# Altium schematic symbol library MH_DA_THU_VIEN_16122016.SchLib: 853 symbols (part 2 of 5)
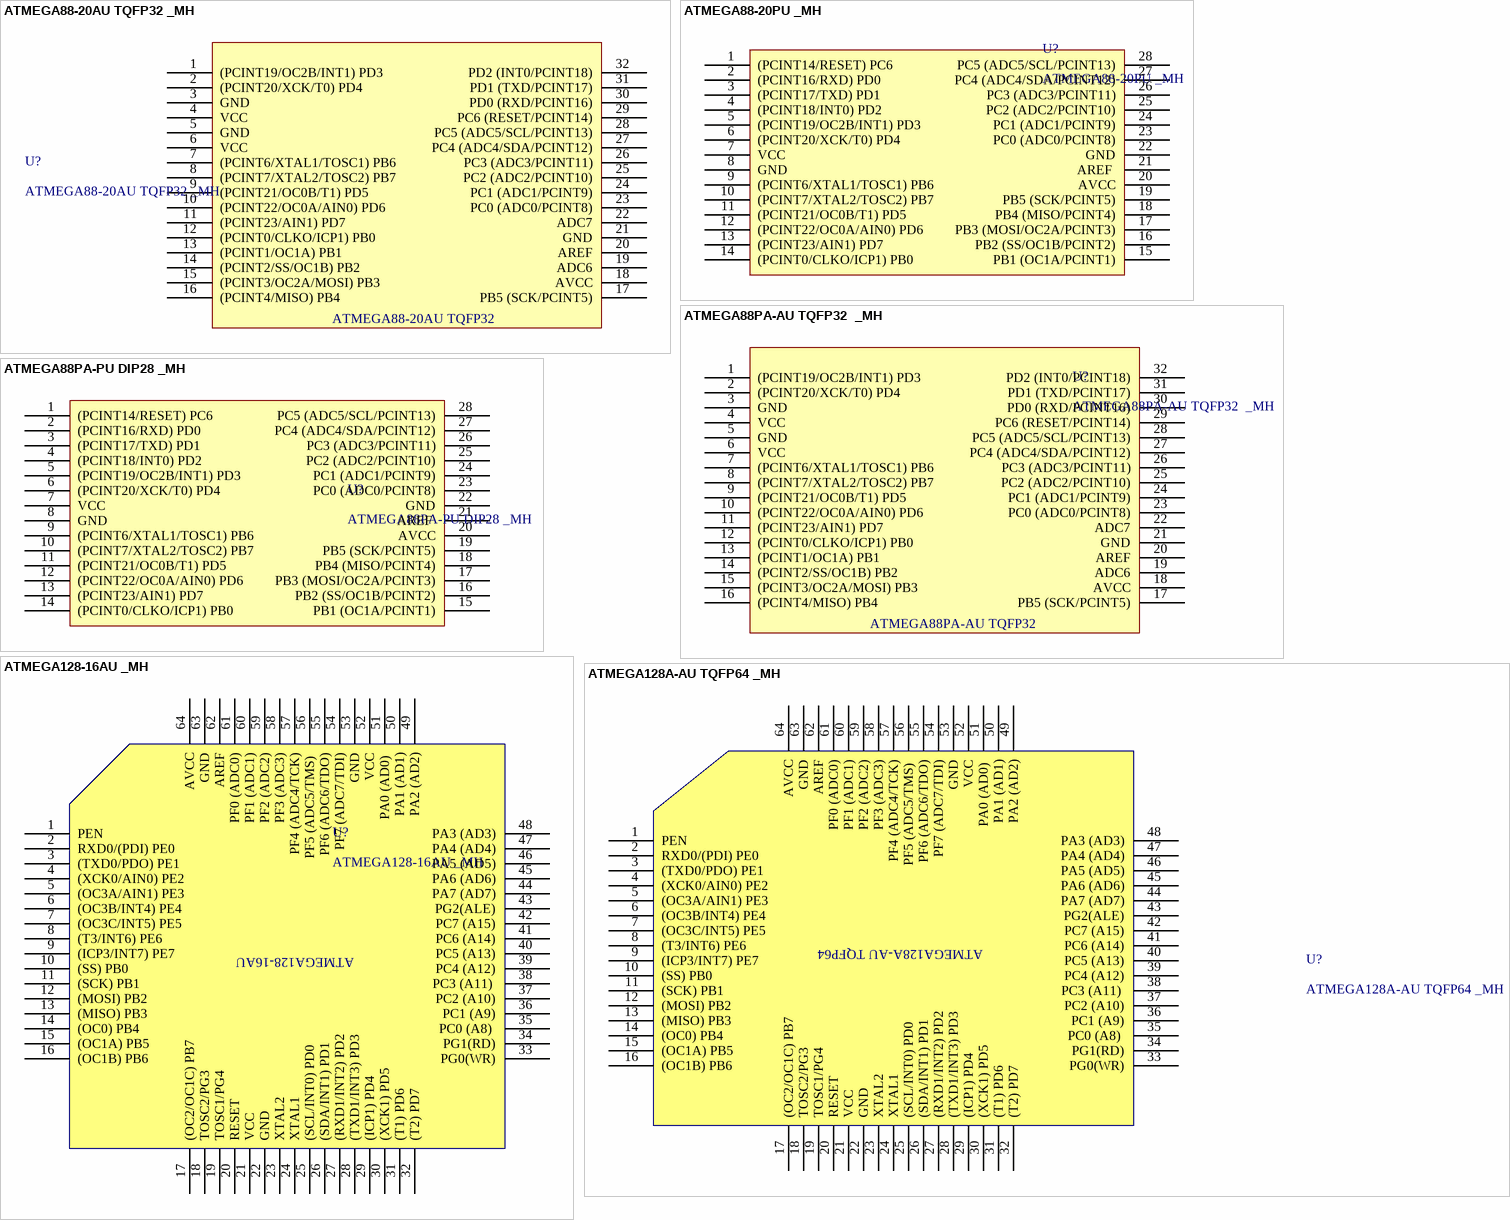
[diagram p41: symbols ATMEGA88-20AU TQFP32 _MH to ATMEGA128A-AU TQFP64 _MH]

## ATMEGA128-16AU _MH
designator U?
footprint ATmega128 (Atmega128)
pins: 1 PEN, 2 RXD0/(PDI) PE0, 3 (TXD0/PDO) PE1, 4 (XCK0/AIN0) PE2, 5 (OC3A/AIN1) PE3, 6 (OC3B/INT4) PE4, 7 (OC3C/INT5) PE5, 8 (T3/INT6) PE6, 9 (ICP3/INT7) PE7, 10 (SS) PB0, 11 (SCK) PB1, 12 (MOSI) PB2, 13 (MISO) PB3, 14 (OC0) PB4, 15 (OC1A) PB5, 16 (OC1B) PB6, 17 (OC2/OC1C) PB7, 18 TOSC2/PG3, 19 TOSC1/PG4, 20 RESET, 21 VCC, 22 GND, 23 XTAL2, 24 XTAL1, 25 (SCL/INT0) PD0, 26 (SDA/INT1) PD1, 27 (RXD1/INT2) PD2, 28 (TXD1/INT3) PD3, 29 (ICP1) PD4, 30 (XCK1) PD5, 31 (T1) PD6, 32 (T2) PD7, 33 PG0(WR), 34 PG1(RD), 35 PC0 (A8) , 36 PC1 (A9), 37 PC2 (A10), 38 PC3 (A11) , 39 PC4 (A12), 40 PC5 (A13), 41 PC6 (A14), 42 PC7 (A15), 43 PG2(ALE), 44 PA7 (AD7), 45 PA6 (AD6), 46 PA5 (AD5), 47 PA4 (AD4), 48 PA3 (AD3), 49 PA2 (AD2), 50 PA1 (AD1), 51 PA0 (AD0) , 52 VCC, 53 GND, 54 PF7 (ADC7/TDI), 55 PF6 (ADC6/TDO), 56 PF5 (ADC5/TMS) , 57 PF4 (ADC4/TCK), 58 PF3 (ADC3), 59 PF2 (ADC2), 60 PF1 (ADC1), 61 PF0 (ADC0), 62 AREF, 63 GND, 64 AVCC
text: ATMEGA128-16AU

## ATMEGA128A-AU TQFP64 _MH
designator U?
footprint TQFP64
pins: 1 PEN, 2 RXD0/(PDI) PE0, 3 (TXD0/PDO) PE1, 4 (XCK0/AIN0) PE2, 5 (OC3A/AIN1) PE3, 6 (OC3B/INT4) PE4, 7 (OC3C/INT5) PE5, 8 (T3/INT6) PE6, 9 (ICP3/INT7) PE7, 10 (SS) PB0, 11 (SCK) PB1, 12 (MOSI) PB2, 13 (MISO) PB3, 14 (OC0) PB4, 15 (OC1A) PB5, 16 (OC1B) PB6, 17 (OC2/OC1C) PB7, 18 TOSC2/PG3, 19 TOSC1/PG4, 20 RESET, 21 VCC, 22 GND, 23 XTAL2, 24 XTAL1, 25 (SCL/INT0) PD0, 26 (SDA/INT1) PD1, 27 (RXD1/INT2) PD2, 28 (TXD1/INT3) PD3, 29 (ICP1) PD4, 30 (XCK1) PD5, 31 (T1) PD6, 32 (T2) PD7, 33 PG0(WR), 34 PG1(RD), 35 PC0 (A8) , 36 PC1 (A9), 37 PC2 (A10), 38 PC3 (A11) , 39 PC4 (A12), 40 PC5 (A13), 41 PC6 (A14), 42 PC7 (A15), 43 PG2(ALE), 44 PA7 (AD7), 45 PA6 (AD6), 46 PA5 (AD5), 47 PA4 (AD4), 48 PA3 (AD3), 49 PA2 (AD2), 50 PA1 (AD1), 51 PA0 (AD0) , 52 VCC, 53 GND, 54 PF7 (ADC7/TDI), 55 PF6 (ADC6/TDO), 56 PF5 (ADC5/TMS) , 57 PF4 (ADC4/TCK), 58 PF3 (ADC3), 59 PF2 (ADC2), 60 PF1 (ADC1), 61 PF0 (ADC0), 62 AREF, 63 GND, 64 AVCC
text: ATMEGA128A-AU TQFP64

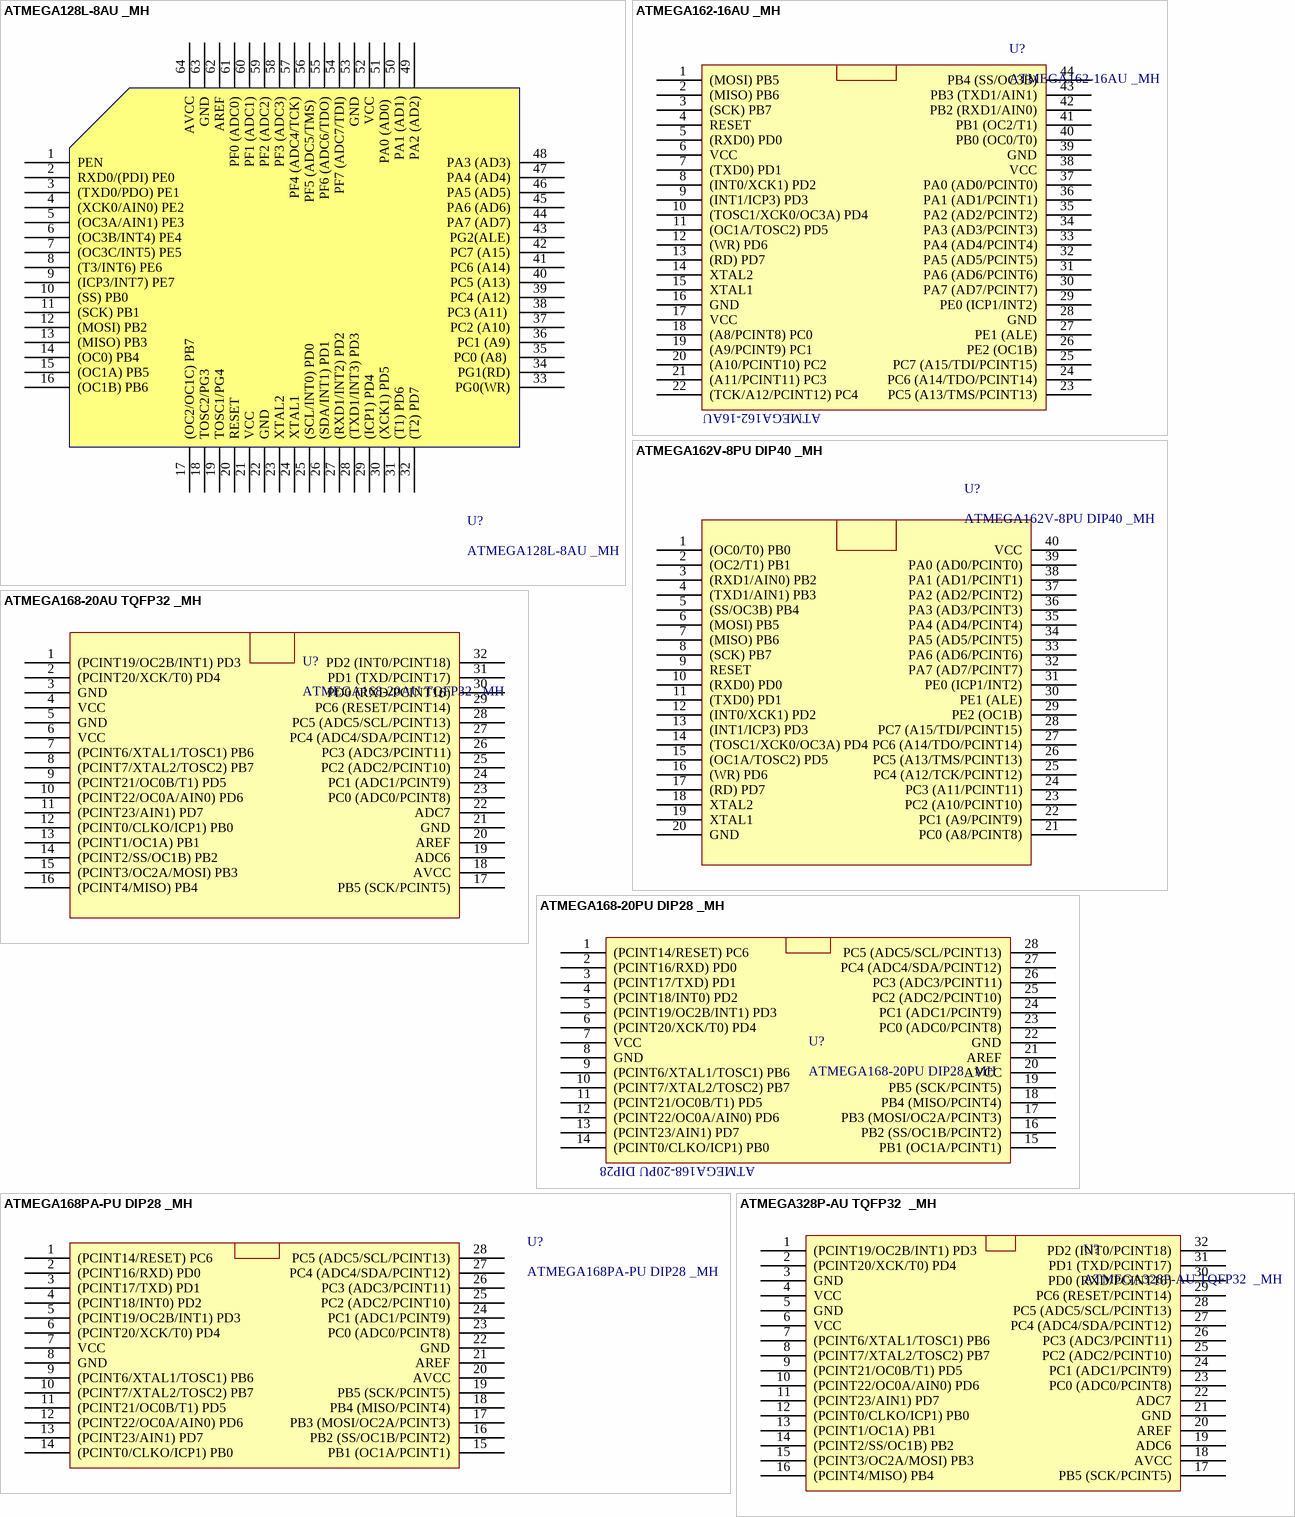
[diagram p8: symbols ATMEGA128L-8AU _MH to ATMEGA328P-AU TQFP32  _MH]

## ATMEGA128L-8AU _MH
designator U?
footprint Atmega 128L (Atmega 128L, 64 pin SMT)
pins: 1 PEN, 2 RXD0/(PDI) PE0, 3 (TXD0/PDO) PE1, 4 (XCK0/AIN0) PE2, 5 (OC3A/AIN1) PE3, 6 (OC3B/INT4) PE4, 7 (OC3C/INT5) PE5, 8 (T3/INT6) PE6, 9 (ICP3/INT7) PE7, 10 (SS) PB0, 11 (SCK) PB1, 12 (MOSI) PB2, 13 (MISO) PB3, 14 (OC0) PB4, 15 (OC1A) PB5, 16 (OC1B) PB6, 17 (OC2/OC1C) PB7, 18 TOSC2/PG3, 19 TOSC1/PG4, 20 RESET, 21 VCC, 22 GND, 23 XTAL2, 24 XTAL1, 25 (SCL/INT0) PD0, 26 (SDA/INT1) PD1, 27 (RXD1/INT2) PD2, 28 (TXD1/INT3) PD3, 29 (ICP1) PD4, 30 (XCK1) PD5, 31 (T1) PD6, 32 (T2) PD7, 33 PG0(WR), 34 PG1(RD), 35 PC0 (A8) , 36 PC1 (A9), 37 PC2 (A10), 38 PC3 (A11) , 39 PC4 (A12), 40 PC5 (A13), 41 PC6 (A14), 42 PC7 (A15), 43 PG2(ALE), 44 PA7 (AD7), 45 PA6 (AD6), 46 PA5 (AD5), 47 PA4 (AD4), 48 PA3 (AD3), 49 PA2 (AD2), 50 PA1 (AD1), 51 PA0 (AD0) , 52 VCC, 53 GND, 54 PF7 (ADC7/TDI), 55 PF6 (ADC6/TDO), 56 PF5 (ADC5/TMS) , 57 PF4 (ADC4/TCK), 58 PF3 (ADC3), 59 PF2 (ADC2), 60 PF1 (ADC1), 61 PF0 (ADC0), 62 AREF, 63 GND, 64 AVCC

## ATMEGA162-16AU _MH
designator U?
footprint TQFP44-10x10-P0.8 (QFP, 44-Leads, Body 10x10mm, Pitch 0.8mm, IPC High Density)
pins: 1 (MOSI) PB5, 2 (MISO) PB6, 3 (SCK) PB7, 4 RESET, 5 (RXD0) PD0, 6 VCC, 7 (TXD0) PD1, 8 (INT0/XCK1) PD2, 9 (INT1/ICP3) PD3, 10 (TOSC1/XCK0/OC3A) PD4, 11 (OC1A/TOSC2) PD5, 12 (WR) PD6, 13 (RD) PD7, 14 XTAL2, 15 XTAL1, 16 GND, 17 VCC, 18 (A8/PCINT8) PC0, 19 (A9/PCINT9) PC1, 20 (A10/PCINT10) PC2, 21 (A11/PCINT11) PC3, 22 (TCK/A12/PCINT12) PC4, 23 PC5 (A13/TMS/PCINT13), 24 PC6 (A14/TDO/PCINT14), 25 PC7 (A15/TDI/PCINT15), 26 PE2 (OC1B), 27 PE1 (ALE), 28 GND, 29 PE0 (ICP1/INT2), 30 PA7 (AD7/PCINT7), 31 PA6 (AD6/PCINT6), 32 PA5 (AD5/PCINT5), 33 PA4 (AD4/PCINT4), 34 PA3 (AD3/PCINT3), 35 PA2 (AD2/PCINT2), 36 PA1 (AD1/PCINT1), 37 PA0 (AD0/PCINT0), 38 VCC, 39 GND, 40 PB0 (OC0/T0), 41 PB1 (OC2/T1), 42 PB2 (RXD1/AIN0), 43 PB3 (TXD1/AIN1), 44 PB4 (SS/OC3B)
text: ATMEGA162-16AU

## ATMEGA162V-8PU DIP40 _MH
designator U?
footprint DIP40/W0.3 (40 PIN, W 300mil, Pin to pin 100mil)
pins: 1 (OC0/T0) PB0, 2 (OC2/T1) PB1, 3 (RXD1/AIN0) PB2, 4 (TXD1/AIN1) PB3, 5 (SS/OC3B) PB4, 6 (MOSI) PB5, 7 (MISO) PB6, 8 (SCK) PB7, 9 RESET, 10 (RXD0) PD0, 11 (TXD0) PD1, 12 (INT0/XCK1) PD2, 13 (INT1/ICP3) PD3, 14 (TOSC1/XCK0/OC3A) PD4, 15 (OC1A/TOSC2) PD5, 16 (WR) PD6, 17 (RD) PD7, 18 XTAL2, 19 XTAL1, 20 GND, 21 PC0 (A8/PCINT8), 22 PC1 (A9/PCINT9), 23 PC2 (A10/PCINT10), 24 PC3 (A11/PCINT11), 25 PC4 (A12/TCK/PCINT12), 26 PC5 (A13/TMS/PCINT13), 27 PC6 (A14/TDO/PCINT14), 28 PC7 (A15/TDI/PCINT15), 29 PE2 (OC1B), 30 PE1 (ALE), 31 PE0 (ICP1/INT2), 32 PA7 (AD7/PCINT7), 33 PA6 (AD6/PCINT6), 34 PA5 (AD5/PCINT5), 35 PA4 (AD4/PCINT4), 36 PA3 (AD3/PCINT3), 37 PA2 (AD2/PCINT2), 38 PA1 (AD1/PCINT1), 39 PA0 (AD0/PCINT0), 40 VCC

## ATMEGA168-20AU TQFP32 _MH
designator U?
footprint TQFP32
pins: 1 (PCINT19/OC2B/INT1) PD3, 2 (PCINT20/XCK/T0) PD4, 3 GND, 4 VCC, 5 GND, 6 VCC, 7 (PCINT6/XTAL1/TOSC1) PB6, 8 (PCINT7/XTAL2/TOSC2) PB7, 9 (PCINT21/OC0B/T1) PD5, 10 (PCINT22/OC0A/AIN0) PD6, 11 (PCINT23/AIN1) PD7, 12 (PCINT0/CLKO/ICP1) PB0, 13 (PCINT1/OC1A) PB1, 14 (PCINT2/SS/OC1B) PB2, 15 (PCINT3/OC2A/MOSI) PB3, 16 (PCINT4/MISO) PB4, 17 PB5 (SCK/PCINT5), 18 AVCC, 19 ADC6, 20 AREF, 21 GND, 22 ADC7, 23 PC0 (ADC0/PCINT8), 24 PC1 (ADC1/PCINT9), 25 PC2 (ADC2/PCINT10), 26 PC3 (ADC3/PCINT11), 27 PC4 (ADC4/SDA/PCINT12), 28 PC5 (ADC5/SCL/PCINT13), 29 PC6 (RESET/PCINT14), 30 PD0 (RXD/PCINT16), 31 PD1 (TXD/PCINT17), 32 PD2 (INT0/PCINT18)

## ATMEGA168-20PU DIP28 _MH
designator U?
footprint DIP28 (28 PIN, W 300mil, Pin to pin 100mil)
pins: 1 (PCINT14/RESET) PC6, 2 (PCINT16/RXD) PD0, 3 (PCINT17/TXD) PD1, 4 (PCINT18/INT0) PD2, 5 (PCINT19/OC2B/INT1) PD3, 6 (PCINT20/XCK/T0) PD4, 7 VCC, 8 GND, 9 (PCINT6/XTAL1/TOSC1) PB6, 10 (PCINT7/XTAL2/TOSC2) PB7, 11 (PCINT21/OC0B/T1) PD5, 12 (PCINT22/OC0A/AIN0) PD6, 13 (PCINT23/AIN1) PD7, 14 (PCINT0/CLKO/ICP1) PB0, 15 PB1 (OC1A/PCINT1), 16 PB2 (SS/OC1B/PCINT2), 17 PB3 (MOSI/OC2A/PCINT3), 18 PB4 (MISO/PCINT4), 19 PB5 (SCK/PCINT5), 20 AVCC, 21 AREF, 22 GND, 23 PC0 (ADC0/PCINT8), 24 PC1 (ADC1/PCINT9), 25 PC2 (ADC2/PCINT10), 26 PC3 (ADC3/PCINT11), 27 PC4 (ADC4/SDA/PCINT12), 28 PC5 (ADC5/SCL/PCINT13)
text: ATMEGA168-20PU DIP28

## ATMEGA168PA-PU DIP28 _MH
designator U?
footprint DIP28 (28 PIN, W 300mil, Pin to pin 100mil)
pins: 1 (PCINT14/RESET) PC6, 2 (PCINT16/RXD) PD0, 3 (PCINT17/TXD) PD1, 4 (PCINT18/INT0) PD2, 5 (PCINT19/OC2B/INT1) PD3, 6 (PCINT20/XCK/T0) PD4, 7 VCC, 8 GND, 9 (PCINT6/XTAL1/TOSC1) PB6, 10 (PCINT7/XTAL2/TOSC2) PB7, 11 (PCINT21/OC0B/T1) PD5, 12 (PCINT22/OC0A/AIN0) PD6, 13 (PCINT23/AIN1) PD7, 14 (PCINT0/CLKO/ICP1) PB0, 15 PB1 (OC1A/PCINT1), 16 PB2 (SS/OC1B/PCINT2), 17 PB3 (MOSI/OC2A/PCINT3), 18 PB4 (MISO/PCINT4), 19 PB5 (SCK/PCINT5), 20 AVCC, 21 AREF, 22 GND, 23 PC0 (ADC0/PCINT8), 24 PC1 (ADC1/PCINT9), 25 PC2 (ADC2/PCINT10), 26 PC3 (ADC3/PCINT11), 27 PC4 (ADC4/SDA/PCINT12), 28 PC5 (ADC5/SCL/PCINT13)

## ATMEGA328P-AU TQFP32  _MH
designator U?
footprint TQFP32
pins: 1 (PCINT19/OC2B/INT1) PD3, 2 (PCINT20/XCK/T0) PD4, 3 GND, 4 VCC, 5 GND, 6 VCC, 7 (PCINT6/XTAL1/TOSC1) PB6, 8 (PCINT7/XTAL2/TOSC2) PB7, 9 (PCINT21/OC0B/T1) PD5, 10 (PCINT22/OC0A/AIN0) PD6, 11 (PCINT23/AIN1) PD7, 12 (PCINT0/CLKO/ICP1) PB0, 13 (PCINT1/OC1A) PB1, 14 (PCINT2/SS/OC1B) PB2, 15 (PCINT3/OC2A/MOSI) PB3, 16 (PCINT4/MISO) PB4, 17 PB5 (SCK/PCINT5), 18 AVCC, 19 ADC6, 20 AREF, 21 GND, 22 ADC7, 23 PC0 (ADC0/PCINT8), 24 PC1 (ADC1/PCINT9), 25 PC2 (ADC2/PCINT10), 26 PC3 (ADC3/PCINT11), 27 PC4 (ADC4/SDA/PCINT12), 28 PC5 (ADC5/SCL/PCINT13), 29 PC6 (RESET/PCINT14), 30 PD0 (RXD/PCINT16), 31 PD1 (TXD/PCINT17), 32 PD2 (INT0/PCINT18)

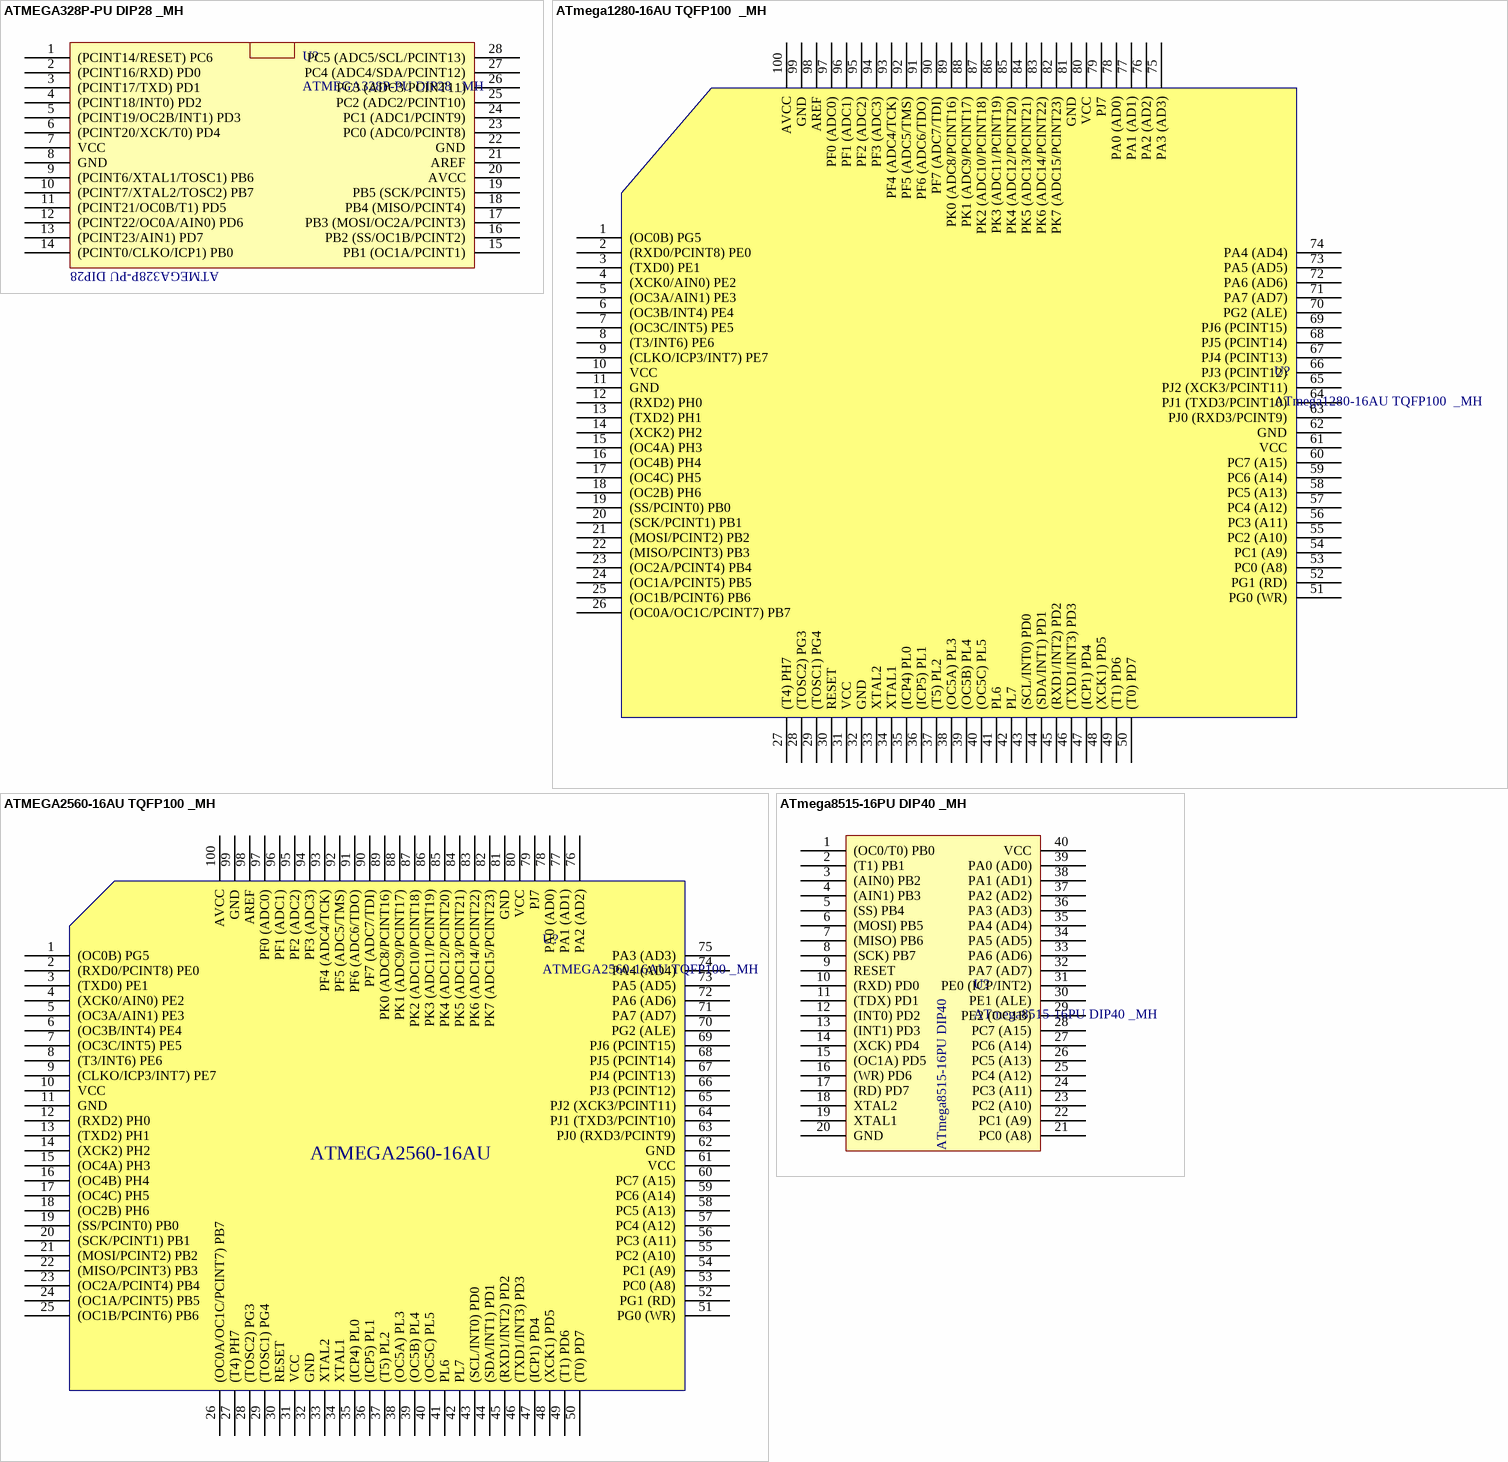
[diagram p9: symbols ATMEGA328P-PU DIP28 _MH to ATmega8515-16PU DIP40 _MH]

## ATMEGA328P-PU DIP28 _MH
designator U?
footprint DIP28 (28 PIN, W 300mil, Pin to pin 100mil)
pins: 1 (PCINT14/RESET) PC6, 2 (PCINT16/RXD) PD0, 3 (PCINT17/TXD) PD1, 4 (PCINT18/INT0) PD2, 5 (PCINT19/OC2B/INT1) PD3, 6 (PCINT20/XCK/T0) PD4, 7 VCC, 8 GND, 9 (PCINT6/XTAL1/TOSC1) PB6, 10 (PCINT7/XTAL2/TOSC2) PB7, 11 (PCINT21/OC0B/T1) PD5, 12 (PCINT22/OC0A/AIN0) PD6, 13 (PCINT23/AIN1) PD7, 14 (PCINT0/CLKO/ICP1) PB0, 15 PB1 (OC1A/PCINT1), 16 PB2 (SS/OC1B/PCINT2), 17 PB3 (MOSI/OC2A/PCINT3), 18 PB4 (MISO/PCINT4), 19 PB5 (SCK/PCINT5), 20 AVCC, 21 AREF, 22 GND, 23 PC0 (ADC0/PCINT8), 24 PC1 (ADC1/PCINT9), 25 PC2 (ADC2/PCINT10), 26 PC3 (ADC3/PCINT11), 27 PC4 (ADC4/SDA/PCINT12), 28 PC5 (ADC5/SCL/PCINT13)
text: ATMEGA328P-PU DIP28

## ATmega1280-16AU TQFP100  _MH
designator U?
footprint TQFP-100-14x14 (Thin QFP, 100-Leads, Body 14x14mm, Pitch 0.5mm, IPC Low Density)
pins: 1 (OC0B) PG5, 2 (RXD0/PCINT8) PE0, 3 (TXD0) PE1, 4 (XCK0/AIN0) PE2, 5 (OC3A/AIN1) PE3, 6 (OC3B/INT4) PE4, 7 (OC3C/INT5) PE5, 8 (T3/INT6) PE6, 9 (CLKO/ICP3/INT7) PE7, 10 VCC, 11 GND, 12 (RXD2) PH0, 13 (TXD2) PH1, 14 (XCK2) PH2, 15 (OC4A) PH3, 16 (OC4B) PH4, 17 (OC4C) PH5, 18 (OC2B) PH6, 19 (SS/PCINT0) PB0, 20 (SCK/PCINT1) PB1, 21 (MOSI/PCINT2) PB2, 22 (MISO/PCINT3) PB3, 23 (OC2A/PCINT4) PB4, 24 (OC1A/PCINT5) PB5, 25 (OC1B/PCINT6) PB6, 26 (OC0A/OC1C/PCINT7) PB7, 27 (T4) PH7, 28 (TOSC2) PG3, 29 (TOSC1) PG4, 30 RESET, 31 VCC, 32 GND, 33 XTAL2, 34 XTAL1, 35 (ICP4) PL0, 36 (ICP5) PL1, 37 (T5) PL2, 38 (OC5A) PL3, 39 (OC5B) PL4, 40 (OC5C) PL5, 41 PL6, 42 PL7, 43 (SCL/INT0) PD0, 44 (SDA/INT1) PD1, 45 (RXD1/INT2) PD2, 46 (TXD1/INT3) PD3, 47 (ICP1) PD4, 48 (XCK1) PD5, 49 (T1) PD6, 50 (T0) PD7, 51 PG0 (WR), 52 PG1 (RD), 53 PC0 (A8), 54 PC1 (A9), 55 PC2 (A10), 56 PC3 (A11), 57 PC4 (A12), 58 PC5 (A13), 59 PC6 (A14), 60 PC7 (A15), 61 VCC, 62 GND, 63 PJ0 (RXD3/PCINT9), 64 PJ1 (TXD3/PCINT10), 65 PJ2 (XCK3/PCINT11), 66 PJ3 (PCINT12), 67 PJ4 (PCINT13), 68 PJ5 (PCINT14), 69 PJ6 (PCINT15), 70 PG2 (ALE), 71 PA7 (AD7), 72 PA6 (AD6), 73 PA5 (AD5), 74 PA4 (AD4), 75 PA3 (AD3), 76 PA2 (AD2), 77 PA1 (AD1), 78 PA0 (AD0), 79 PJ7, 80 VCC, 81 GND, 82 PK7 (ADC15/PCINT23), 83 PK6 (ADC14/PCINT22), 84 PK5 (ADC13/PCINT21), 85 PK4 (ADC12/PCINT20), 86 PK3 (ADC11/PCINT19), 87 PK2 (ADC10/PCINT18), 88 PK1 (ADC9/PCINT17), 89 PK0 (ADC8/PCINT16), 90 PF7 (ADC7/TDI), 91 PF6 (ADC6/TDO), 92 PF5 (ADC5/TMS), 93 PF4 (ADC4/TCK), 94 PF3 (ADC3), 95 PF2 (ADC2), 96 PF1 (ADC1), 97 PF0 (ADC0), 98 AREF, 99 GND, 100 AVCC

## ATMEGA2560-16AU TQFP100 _MH
designator U?
footprint LQFP 100
pins: 1 (OC0B) PG5, 2 (RXD0/PCINT8) PE0, 3 (TXD0) PE1, 4 (XCK0/AIN0) PE2, 5 (OC3A/AIN1) PE3, 6 (OC3B/INT4) PE4, 7 (OC3C/INT5) PE5, 8 (T3/INT6) PE6, 9 (CLKO/ICP3/INT7) PE7, 10 VCC, 11 GND, 12 (RXD2) PH0, 13 (TXD2) PH1, 14 (XCK2) PH2, 15 (OC4A) PH3, 16 (OC4B) PH4, 17 (OC4C) PH5, 18 (OC2B) PH6, 19 (SS/PCINT0) PB0, 20 (SCK/PCINT1) PB1, 21 (MOSI/PCINT2) PB2, 22 (MISO/PCINT3) PB3, 23 (OC2A/PCINT4) PB4, 24 (OC1A/PCINT5) PB5, 25 (OC1B/PCINT6) PB6, 26 (OC0A/OC1C/PCINT7) PB7, 27 (T4) PH7, 28 (TOSC2) PG3, 29 (TOSC1) PG4, 30 RESET, 31 VCC, 32 GND, 33 XTAL2, 34 XTAL1, 35 (ICP4) PL0, 36 (ICP5) PL1, 37 (T5) PL2, 38 (OC5A) PL3, 39 (OC5B) PL4, 40 (OC5C) PL5, 41 PL6, 42 PL7, 43 (SCL/INT0) PD0, 44 (SDA/INT1) PD1, 45 (RXD1/INT2) PD2, 46 (TXD1/INT3) PD3, 47 (ICP1) PD4, 48 (XCK1) PD5, 49 (T1) PD6, 50 (T0) PD7, 51 PG0 (WR), 52 PG1 (RD), 53 PC0 (A8), 54 PC1 (A9), 55 PC2 (A10), 56 PC3 (A11), 57 PC4 (A12), 58 PC5 (A13), 59 PC6 (A14), 60 PC7 (A15), 61 VCC, 62 GND, 63 PJ0 (RXD3/PCINT9), 64 PJ1 (TXD3/PCINT10), 65 PJ2 (XCK3/PCINT11), 66 PJ3 (PCINT12), 67 PJ4 (PCINT13), 68 PJ5 (PCINT14), 69 PJ6 (PCINT15), 70 PG2 (ALE), 71 PA7 (AD7), 72 PA6 (AD6), 73 PA5 (AD5), 74 PA4 (AD4), 75 PA3 (AD3), 76 PA2 (AD2), 77 PA1 (AD1), 78 PA0 (AD0), 79 PJ7, 80 VCC, 81 GND, 82 PK7 (ADC15/PCINT23), 83 PK6 (ADC14/PCINT22), 84 PK5 (ADC13/PCINT21), 85 PK4 (ADC12/PCINT20), 86 PK3 (ADC11/PCINT19), 87 PK2 (ADC10/PCINT18), 88 PK1 (ADC9/PCINT17), 89 PK0 (ADC8/PCINT16), 90 PF7 (ADC7/TDI), 91 PF6 (ADC6/TDO), 92 PF5 (ADC5/TMS), 93 PF4 (ADC4/TCK), 94 PF3 (ADC3), 95 PF2 (ADC2), 96 PF1 (ADC1), 97 PF0 (ADC0), 98 AREF, 99 GND, 100 AVCC
text: ATMEGA2560-16AU

## ATmega8515-16PU DIP40 _MH
designator U?
footprint DIP 40
pins: 1 (OC0/T0) PB0, 2 (T1) PB1, 3 (AIN0) PB2, 4 (AIN1) PB3, 5 (SS) PB4, 6 (MOSI) PB5, 7 (MISO) PB6, 8 (SCK) PB7, 9 RESET, 10 (RXD) PD0, 11 (TDX) PD1, 12 (INT0) PD2, 13 (INT1) PD3, 14 (XCK) PD4, 15 (OC1A) PD5, 16 (WR) PD6, 17 (RD) PD7, 18 XTAL2, 19 XTAL1, 20 GND, 21 PC0 (A8), 22 PC1 (A9), 23 PC2 (A10), 24 PC3 (A11), 25 PC4 (A12), 26 PC5 (A13), 27 PC6 (A14), 28 PC7 (A15), 29 PE2 (OC1B), 30 PE1 (ALE), 31 PE0 (ICP/INT2), 32 PA7 (AD7), 33 PA6 (AD6), 34 PA5 (AD5), 35 PA4 (AD4), 36 PA3 (AD3), 37 PA2 (AD2), 38 PA1 (AD1), 39 PA0 (AD0), 40 VCC
text: ATmega8515-16PU DIP40

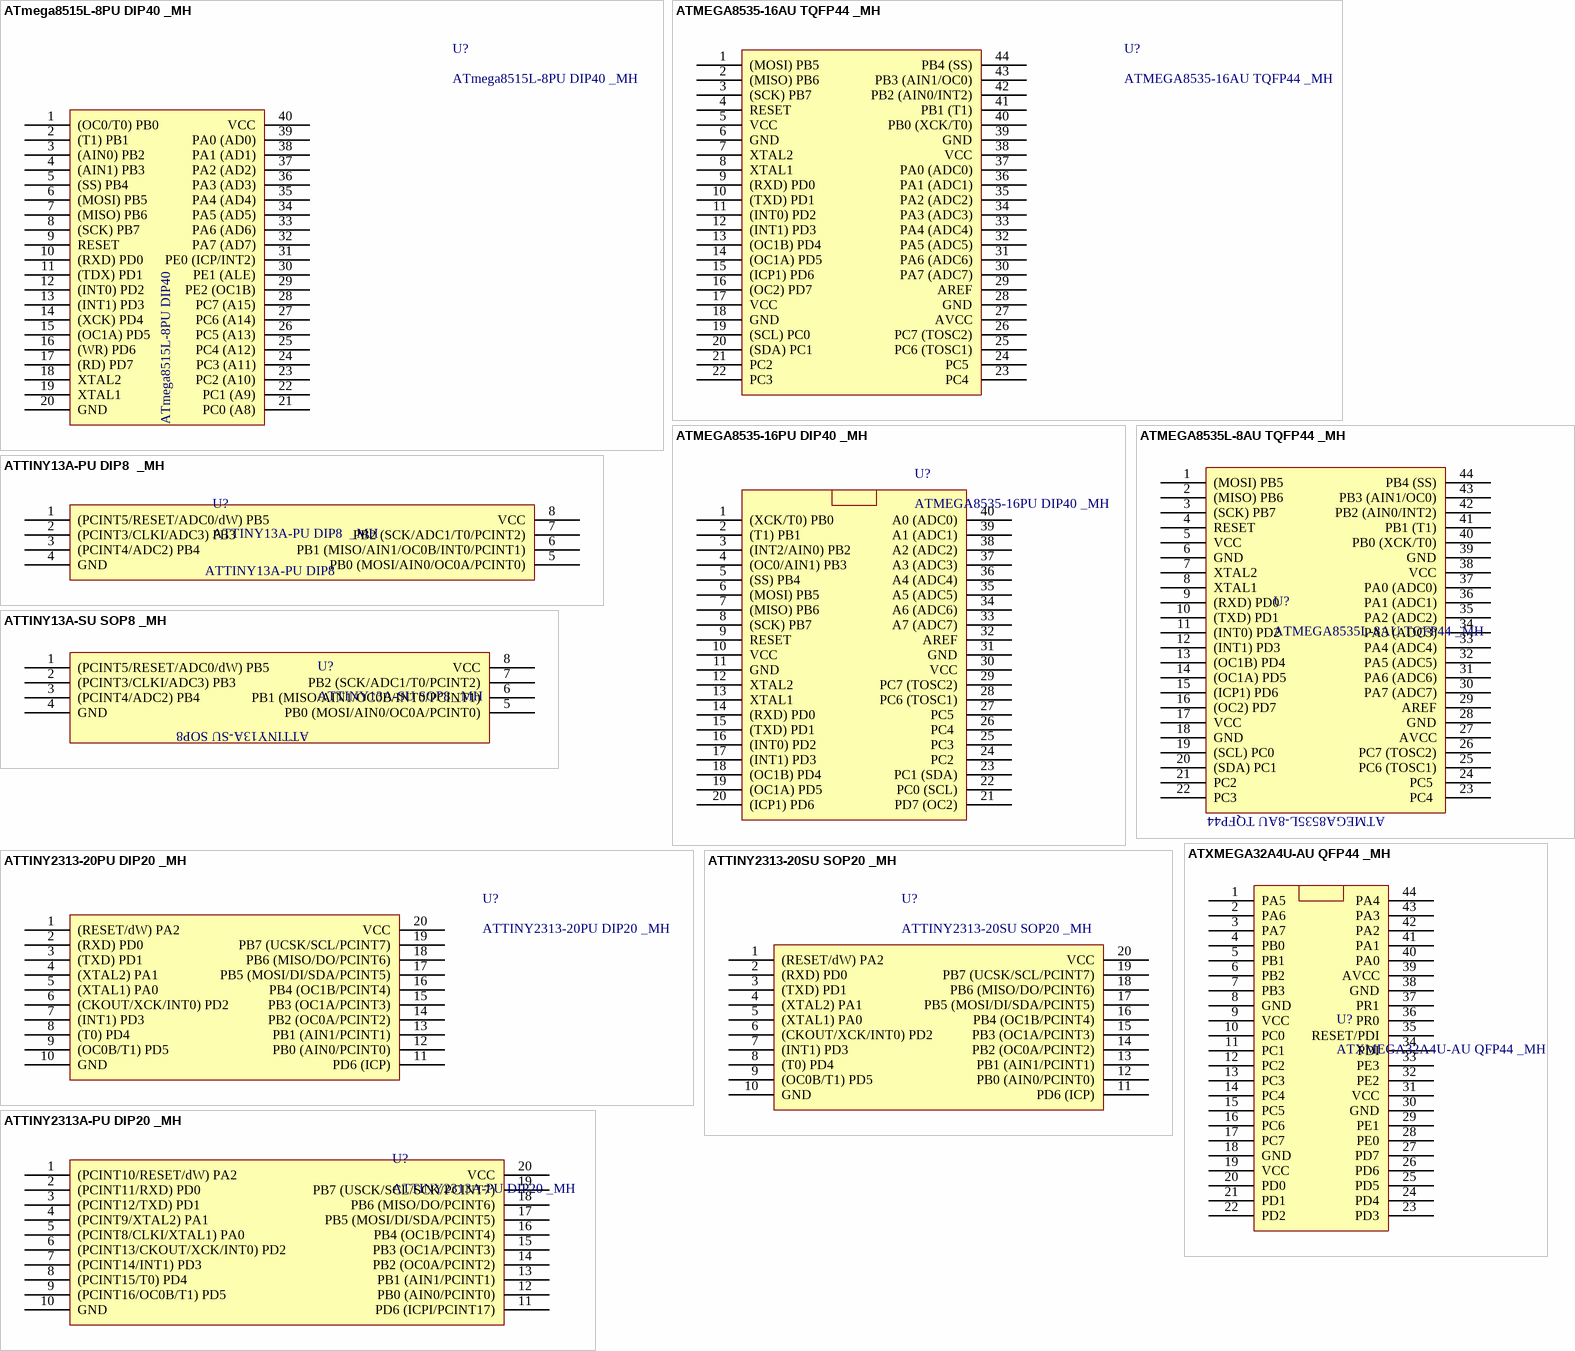
[diagram p10: symbols ATmega8515L-8PU DIP40 _MH to ATXMEGA32A4U-AU QFP44 _MH]

## ATmega8515L-8PU DIP40 _MH
designator U?
footprint DIP 40
pins: 1 (OC0/T0) PB0, 2 (T1) PB1, 3 (AIN0) PB2, 4 (AIN1) PB3, 5 (SS) PB4, 6 (MOSI) PB5, 7 (MISO) PB6, 8 (SCK) PB7, 9 RESET, 10 (RXD) PD0, 11 (TDX) PD1, 12 (INT0) PD2, 13 (INT1) PD3, 14 (XCK) PD4, 15 (OC1A) PD5, 16 (WR) PD6, 17 (RD) PD7, 18 XTAL2, 19 XTAL1, 20 GND, 21 PC0 (A8), 22 PC1 (A9), 23 PC2 (A10), 24 PC3 (A11), 25 PC4 (A12), 26 PC5 (A13), 27 PC6 (A14), 28 PC7 (A15), 29 PE2 (OC1B), 30 PE1 (ALE), 31 PE0 (ICP/INT2), 32 PA7 (AD7), 33 PA6 (AD6), 34 PA5 (AD5), 35 PA4 (AD4), 36 PA3 (AD3), 37 PA2 (AD2), 38 PA1 (AD1), 39 PA0 (AD0), 40 VCC
text: ATmega8515L-8PU DIP40

## ATMEGA8535-16AU TQFP44 _MH
designator U?
footprint TQFP44-10x10-P0.8 (QFP, 44-Leads, Body 10x10mm, Pitch 0.8mm, IPC High Density)
pins: 1 (MOSI) PB5, 2 (MISO) PB6, 3 (SCK) PB7, 4 RESET, 5 VCC, 6 GND, 7 XTAL2, 8 XTAL1, 9 (RXD) PD0, 10 (TXD) PD1, 11 (INT0) PD2, 12 (INT1) PD3, 13 (OC1B) PD4, 14 (OC1A) PD5, 15 (ICP1) PD6, 16 (OC2) PD7, 17 VCC, 18 GND, 19 (SCL) PC0, 20 (SDA) PC1, 21 PC2, 22 PC3, 23 PC4 , 24 PC5 , 25 PC6 (TOSC1), 26 PC7 (TOSC2), 27 AVCC, 28 GND, 29 AREF, 30 PA7 (ADC7), 31 PA6 (ADC6), 32 PA5 (ADC5), 33 PA4 (ADC4), 34 PA3 (ADC3), 35 PA2 (ADC2), 36 PA1 (ADC1), 37 PA0 (ADC0), 38 VCC, 39 GND, 40 PB0 (XCK/T0), 41 PB1 (T1), 42 PB2 (AIN0/INT2), 43 PB3 (AIN1/OC0), 44 PB4 (SS)

## ATMEGA8535-16PU DIP40 _MH
designator U?
footprint DIP 40
pins: 1 (XCK/T0) PB0, 2 (T1) PB1, 3 (INT2/AIN0) PB2, 4 (OC0/AIN1) PB3, 5 (SS) PB4, 6 (MOSI) PB5, 7 (MISO) PB6, 8 (SCK) PB7, 9 RESET, 10 VCC, 11 GND, 12 XTAL2, 13 XTAL1, 14 (RXD) PD0, 15 (TXD) PD1, 16 (INT0) PD2, 17 (INT1) PD3, 18 (OC1B) PD4, 19 (OC1A) PD5, 20 (ICP1) PD6, 21 PD7 (OC2), 22 PC0 (SCL), 23 PC1 (SDA), 24 PC2 , 25 PC3 , 26 PC4 , 27 PC5 , 28 PC6 (TOSC1), 29 PC7 (TOSC2), 30 VCC, 31 GND, 32 AREF, 33 A7 (ADC7), 34 A6 (ADC6), 35 A5 (ADC5), 36 A4 (ADC4), 37 A3 (ADC3), 38 A2 (ADC2), 39 A1 (ADC1), 40 A0 (ADC0)

## ATMEGA8535L-8AU TQFP44 _MH
designator U?
footprint TQFP44-10x10-P0.8 (QFP, 44-Leads, Body 10x10mm, Pitch 0.8mm, IPC High Density)
pins: 1 (MOSI) PB5, 2 (MISO) PB6, 3 (SCK) PB7, 4 RESET, 5 VCC, 6 GND, 7 XTAL2, 8 XTAL1, 9 (RXD) PD0, 10 (TXD) PD1, 11 (INT0) PD2, 12 (INT1) PD3, 13 (OC1B) PD4, 14 (OC1A) PD5, 15 (ICP1) PD6, 16 (OC2) PD7, 17 VCC, 18 GND, 19 (SCL) PC0, 20 (SDA) PC1, 21 PC2, 22 PC3, 23 PC4 , 24 PC5 , 25 PC6 (TOSC1), 26 PC7 (TOSC2), 27 AVCC, 28 GND, 29 AREF, 30 PA7 (ADC7), 31 PA6 (ADC6), 32 PA5 (ADC5), 33 PA4 (ADC4), 34 PA3 (ADC3), 35 PA2 (ADC2), 36 PA1 (ADC1), 37 PA0 (ADC0), 38 VCC, 39 GND, 40 PB0 (XCK/T0), 41 PB1 (T1), 42 PB2 (AIN0/INT2), 43 PB3 (AIN1/OC0), 44 PB4 (SS)
text: ATMEGA8535L-8AU TQFP44

## ATTINY13A-PU DIP8  _MH
designator U?
footprint DIP8 (W.300/L.400)
pins: 1 (PCINT5/RESET/ADC0/dW) PB5, 2 (PCINT3/CLKI/ADC3) PB3, 3 (PCINT4/ADC2) PB4, 4 GND, 5 PB0 (MOSI/AIN0/OC0A/PCINT0), 6 PB1 (MISO/AIN1/OC0B/INT0/PCINT1), 7 PB2 (SCK/ADC1/T0/PCINT2), 8 VCC
text: ATTINY13A-PU DIP8

## ATTINY13A-SU SOP8 _MH
designator U?
footprint SOP 8
pins: 1 (PCINT5/RESET/ADC0/dW) PB5, 2 (PCINT3/CLKI/ADC3) PB3, 3 (PCINT4/ADC2) PB4, 4 GND, 5 PB0 (MOSI/AIN0/OC0A/PCINT0), 6 PB1 (MISO/AIN1/OC0B/INT0/PCINT1), 7 PB2 (SCK/ADC1/T0/PCINT2), 8 VCC
text: ATTINY13A-SU SOP8

## ATTINY2313-20PU DIP20 _MH
designator U?
footprint DIP20 (DIP 20, 20 PIN, W 300mil, Pin to pin 100mil)
pins: 1 (RESET/dW) PA2, 2 (RXD) PD0, 3 (TXD) PD1, 4 (XTAL2) PA1, 5 (XTAL1) PA0, 6 (CKOUT/XCK/INT0) PD2, 7 (INT1) PD3, 8 (T0) PD4, 9 (OC0B/T1) PD5, 10 GND, 11 PD6 (ICP), 12 PB0 (AIN0/PCINT0), 13 PB1 (AIN1/PCINT1), 14 PB2 (OC0A/PCINT2), 15 PB3 (OC1A/PCINT3), 16 PB4 (OC1B/PCINT4), 17 PB5 (MOSI/DI/SDA/PCINT5), 18 PB6 (MISO/DO/PCINT6), 19 PB7 (UCSK/SCL/PCINT7), 20 VCC

## ATTINY2313-20SU SOP20 _MH
designator U?
footprint TSSOP20 (Shrink Small Outline; 20 Leads; Body Width 4.4 mm; Pitch 0.65 mm)
pins: 1 (RESET/dW) PA2, 2 (RXD) PD0, 3 (TXD) PD1, 4 (XTAL2) PA1, 5 (XTAL1) PA0, 6 (CKOUT/XCK/INT0) PD2, 7 (INT1) PD3, 8 (T0) PD4, 9 (OC0B/T1) PD5, 10 GND, 11 PD6 (ICP), 12 PB0 (AIN0/PCINT0), 13 PB1 (AIN1/PCINT1), 14 PB2 (OC0A/PCINT2), 15 PB3 (OC1A/PCINT3), 16 PB4 (OC1B/PCINT4), 17 PB5 (MOSI/DI/SDA/PCINT5), 18 PB6 (MISO/DO/PCINT6), 19 PB7 (UCSK/SCL/PCINT7), 20 VCC

## ATTINY2313A-PU DIP20 _MH
designator U?
footprint DIP20 (DIP 20, 20 PIN, W 300mil, Pin to pin 100mil)
pins: 1 (PCINT10/RESET/dW) PA2, 2 (PCINT11/RXD) PD0, 3 (PCINT12/TXD) PD1, 4 (PCINT9/XTAL2) PA1, 5 (PCINT8/CLKI/XTAL1) PA0, 6 (PCINT13/CKOUT/XCK/INT0) PD2, 7 (PCINT14/INT1) PD3, 8 (PCINT15/T0) PD4, 9 (PCINT16/OC0B/T1) PD5, 10 GND, 11 PD6 (ICPI/PCINT17), 12 PB0 (AIN0/PCINT0), 13 PB1 (AIN1/PCINT1), 14 PB2 (OC0A/PCINT2), 15 PB3 (OC1A/PCINT3), 16 PB4 (OC1B/PCINT4), 17 PB5 (MOSI/DI/SDA/PCINT5), 18 PB6 (MISO/DO/PCINT6), 19 PB7 (USCK/SCL/SCK/PCINT7), 20 VCC

## ATXMEGA32A4U-AU QFP44 _MH
designator U?
footprint TQFP44-10x10-P0.8 (QFP, 44-Leads, Body 10x10mm, Pitch 0.8mm, IPC High Density)
pins: 1 PA5, 2 PA6, 3 PA7, 4 PB0, 5 PB1, 6 PB2, 7 PB3, 8 GND, 9 VCC, 10 PC0, 11 PC1, 12 PC2, 13 PC3, 14 PC4, 15 PC5, 16 PC6, 17 PC7, 18 GND, 19 VCC, 20 PD0, 21 PD1, 22 PD2, 23 PD3, 24 PD4, 25 PD5, 26 PD6, 27 PD7, 28 PE0, 29 PE1, 30 GND, 31 VCC, 32 PE2, 33 PE3, 34 PDI, 35 RESET/PDI, 36 PR0, 37 PR1, 38 GND, 39 AVCC, 40 PA0, 41 PA1, 42 PA2, 43 PA3, 44 PA4

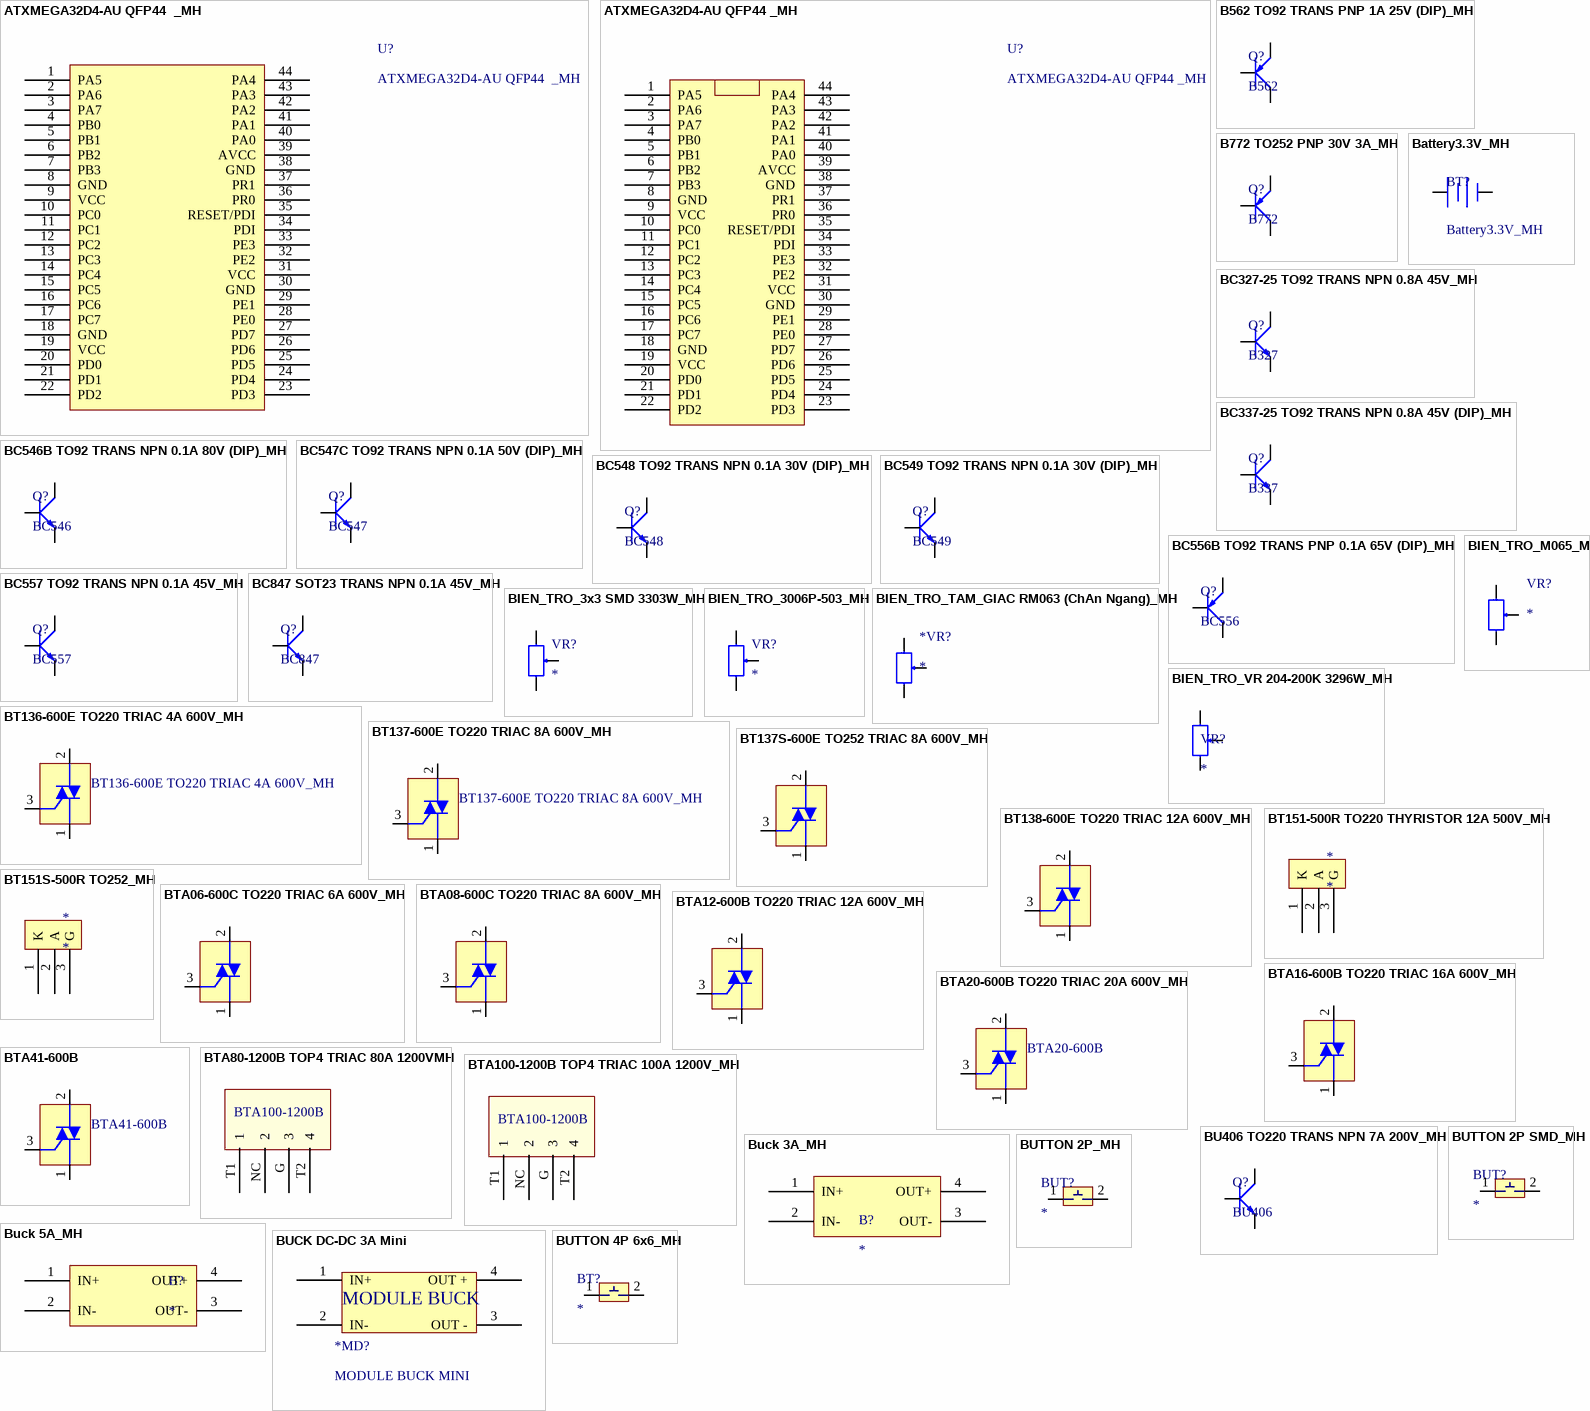
[diagram p11: symbols ATXMEGA32D4-AU QFP44  _MH to BUTTON 4P 6x6_MH]

## ATXMEGA32D4-AU QFP44  _MH
designator U?
footprint TQFP44-10x10-P0.8 (QFP, 44-Leads, Body 10x10mm, Pitch 0.8mm, IPC High Density)
pins: 1 PA5, 2 PA6, 3 PA7, 4 PB0, 5 PB1, 6 PB2, 7 PB3, 8 GND, 9 VCC, 10 PC0, 11 PC1, 12 PC2, 13 PC3, 14 PC4, 15 PC5, 16 PC6, 17 PC7, 18 GND, 19 VCC, 20 PD0, 21 PD1, 22 PD2, 23 PD3, 24 PD4, 25 PD5, 26 PD6, 27 PD7, 28 PE0, 29 PE1, 30 GND, 31 VCC, 32 PE2, 33 PE3, 34 PDI, 35 RESET/PDI, 36 PR0, 37 PR1, 38 GND, 39 AVCC, 40 PA0, 41 PA1, 42 PA2, 43 PA3, 44 PA4

## ATXMEGA32D4-AU QFP44 _MH
designator U?
footprint TQFP44-10x10-P0.8 (QFP, 44-Leads, Body 10x10mm, Pitch 0.8mm, IPC High Density)
pins: 1 PA5, 2 PA6, 3 PA7, 4 PB0, 5 PB1, 6 PB2, 7 PB3, 8 GND, 9 VCC, 10 PC0, 11 PC1, 12 PC2, 13 PC3, 14 PC4, 15 PC5, 16 PC6, 17 PC7, 18 GND, 19 VCC, 20 PD0, 21 PD1, 22 PD2, 23 PD3, 24 PD4, 25 PD5, 26 PD6, 27 PD7, 28 PE0, 29 PE1, 30 GND, 31 VCC, 32 PE2, 33 PE3, 34 PDI, 35 RESET/PDI, 36 PR0, 37 PR1, 38 GND, 39 AVCC, 40 PA0, 41 PA1, 42 PA2, 43 PA3, 44 PA4

## B562 TO92 TRANS PNP 1A 25V (DIP)_MH
designator Q?, comment B562
footprint TO92 (TO, Flat Index; 3 In-Line, Axial Leads; Body Dia. 4.8mm)
pins: 1 E, 2 C, 3 B

## B772 TO252 PNP 30V 3A_MH
designator Q?, comment B772
footprint TO252
pins: 1 B, 2 C, 3 E

## Battery3.3V_MH
designator BT?
Multicell Battery; Published: 24-Mar-1999; LatestRevisionDate: 17-Jul-2002; LatestRevisionNote: Re-released for DXP Platform.; PackageReference: BAT-2; Publisher: Altium Limited
footprint CR2032 Holder
pins: 1 +, 2 -

## BC327-25 TO92 TRANS NPN 0.8A 45V_MH
designator Q?, comment B327
footprint TO92 (TO, Flat Index; 3 In-Line, Axial Leads; Body Dia. 4.8mm)
pins: 1 C, 2 B, 3 E

## BC337-25 TO92 TRANS NPN 0.8A 45V (DIP)_MH
designator Q?, comment B337
footprint TO92 (TO, Flat Index; 3 In-Line, Axial Leads; Body Dia. 4.8mm)
pins: 1 C, 2 B, 3 E

## BC546B TO92 TRANS NPN 0.1A 80V (DIP)_MH
designator Q?, comment BC546
footprint TO92 (TO, Flat Index; 3 In-Line, Axial Leads; Body Dia. 4.8mm)
pins: 1 C, 2 B, 3 E

## BC547C TO92 TRANS NPN 0.1A 50V (DIP)_MH
designator Q?, comment BC547
footprint TO92 (TO, Flat Index; 3 In-Line, Axial Leads; Body Dia. 4.8mm)
pins: 1 C, 2 B, 3 E

## BC548 TO92 TRANS NPN 0.1A 30V (DIP)_MH
designator Q?, comment BC548
footprint TO92 (TO, Flat Index; 3 In-Line, Axial Leads; Body Dia. 4.8mm)
pins: 1 C, 2 B, 3 E

## BC549 TO92 TRANS NPN 0.1A 30V (DIP)_MH
designator Q?, comment BC549
footprint TO92 (TO, Flat Index; 3 In-Line, Axial Leads; Body Dia. 4.8mm)
pins: 1 C, 2 B, 3 E

## BC556B TO92 TRANS PNP 0.1A 65V (DIP)_MH
designator Q?, comment BC556
footprint TO92 (TO, Flat Index; 3 In-Line, Axial Leads; Body Dia. 4.8mm)
pins: 1 C, 2 B, 3 E

## BC557 TO92 TRANS NPN 0.1A 45V_MH
designator Q?, comment BC557
footprint TO92 (TO, Flat Index; 3 In-Line, Axial Leads; Body Dia. 4.8mm)
pins: 1 E, 2 B, 3 C

## BC847 SOT23 TRANS NPN 0.1A 45V_MH
designator Q?, comment BC847
footprint SOT23 (SOT-23; 3 Leads; Body 3.1 x 2.5 mm, inc. leads (LxW max), Alternate Lead Configuration)
pins: 1 B, 2 E, 3 C

## BIEN_TRO_3x3 SMD 3303W_MH
designator VR?
VR3x3
footprint VR3-SMD
pins: 1, 2, 3

## BIEN_TRO_3006P-503_MH
designator VR?
VR3006P
footprint VR3-dip
pins: 1, 2, 3

## BIEN_TRO_M065_MH
designator VR?
VR 3chan
footprint VR-TG3-T
pins: 1, 2, 3

## BIEN_TRO_TAM_GIAC RM063 (ChAn Ngang)_MH
designator *VR?
VR tg
footprint VR-TG-N
pins: 1, 2, 3

## BIEN_TRO_VR 204-200K 3296W_MH
designator VR?
VR-vuong
footprint VR-3V
pins: 1, 2, 3

## BT136-600E TO220 TRIAC 4A 600V_MH
designator BT?
BT137; BT137: BT137
footprint TO220
pins: 1, 2, 3 "Gate"

## BT137-600E TO220 TRIAC 8A 600V_MH
designator BT?
BT137: BT137
footprint TO220
pins: 1, 2, 3 "Gate"

## BT137S-600E TO252 TRIAC 8A 600V_MH
designator BT?
BT137: BT137
footprint TO-252
pins: 1, 2, 3 "Gate"

## BT138-600E TO220 TRIAC 12A 600V_MH
designator BT?
BT137: BT137
footprint TO220
pins: 1, 2, 3 "Gate"

## BT151-500R TO220 THYRISTOR 12A 500V_MH
designator *
footprint TO220
pins: 1 K, 2 A, 3 G

## BT151S-500R TO252_MH
designator *
footprint TO-252
pins: 1 K, 2 A, 3 G

## BTA06-600C TO220 TRIAC 6A 600V_MH
designator BT?
BT137: BT137
footprint TO220
pins: 1, 2, 3 "Gate"

## BTA08-600C TO220 TRIAC 8A 600V_MH
designator BT?
BT137: BT137
footprint TO220
pins: 1, 2, 3 "Gate"

## BTA12-600B TO220 TRIAC 12A 600V_MH
designator BT?
BT137: BT137
footprint TO220
pins: 1, 2, 3 "Gate"

## BTA16-600B TO220 TRIAC 16A 600V_MH
designator BT?
BT137: BT137
footprint TO220
pins: 1, 2, 3 "Gate"

## BTA20-600B TO220 TRIAC 20A 600V_MH
designator BT?, comment BTA20-600B
BT137: BT137
footprint TO220
pins: 1, 2, 3 "Gate"

## BTA41-600B
designator ?
BT137: BT137
footprint TO220AB (TO, Thru-Hole, Vertical, Heatsink Mounted; 3 In-Line Leads; Pitch 2.54 mm; Pin sequence 1, 3, 2)
footprint 7805 (TO, Thru-Hole, Vertical, Heatsink Mounted; 3 In-Line Leads; Pitch 2.54 mm; Pin sequence 1, 3, 2)
footprint TO220 - 1 (TO, Thru-Hole, Vertical, Heatsink Mounted; 3 In-Line Leads; Pitch 2.54 mm; Pin sequence 1, 3, 2)
footprint QTO-220 (TO-220 - 1-2-3)
footprint TOP3
pins: 1, 2, 3 "Gate"

## BTA80-1200B TOP4 TRIAC 80A 1200VMH
designator BT?
BTA80-1200B TOP4 TRIAC 80A 1200V; BT137: BT137
footprint TOP4
pins: G 3, NC 2, T1 1, T2 4
text: BTA100-1200B

## BTA100-1200B TOP4 TRIAC 100A 1200V_MH
designator BT?
BT137: BT137
footprint TOP4
pins: G 3, NC 2, T1 1, T2 4
text: BTA100-1200B

## BU406 TO220 TRANS NPN 7A 200V_MH
designator Q?, comment BU406
footprint TO220
pins: 1 B, 2 C, 3 E

## Buck 3A_MH
designator B?
buck mini
footprint BUCK 3A MINI
pins: 1 IN+, 2 IN-, 3 OUT-, 4 OUT+

## Buck 5A_MH
designator B?
BUCK
footprint Buck 5A
pins: 1 IN+, 2 IN-, 3 OUT-, 4 OUT+

## BUCK DC-DC 3A Mini
designator *MD?, comment MODULE BUCK MINI
BUCK 3A MINI
footprint MODULE BUCK 3A MINI
pins: 1 IN+, 2 IN-, 3 OUT -, 4 OUT +
text: MODULE BUCK

## BUTTON 2P SMD_MH
designator BUT?
Nút nhấn 2 chân, dán
footprint BUTTON SMD 2
pins: 1, 2

## BUTTON 2P_MH
designator BUT?
Nút nhấn 2 chân, cắm
footprint Button 2 Pin (Button 200mil 2 Pin)
pins: 1, 2

## BUTTON 4P 6x6_MH
designator BT?
Nút nhấn 4 chân, 6x6mm, cắm
footprint BUTTON 4 PIN(6*6) (BUTTON SMORE 280mil x 178mil)
pins: 1, 2

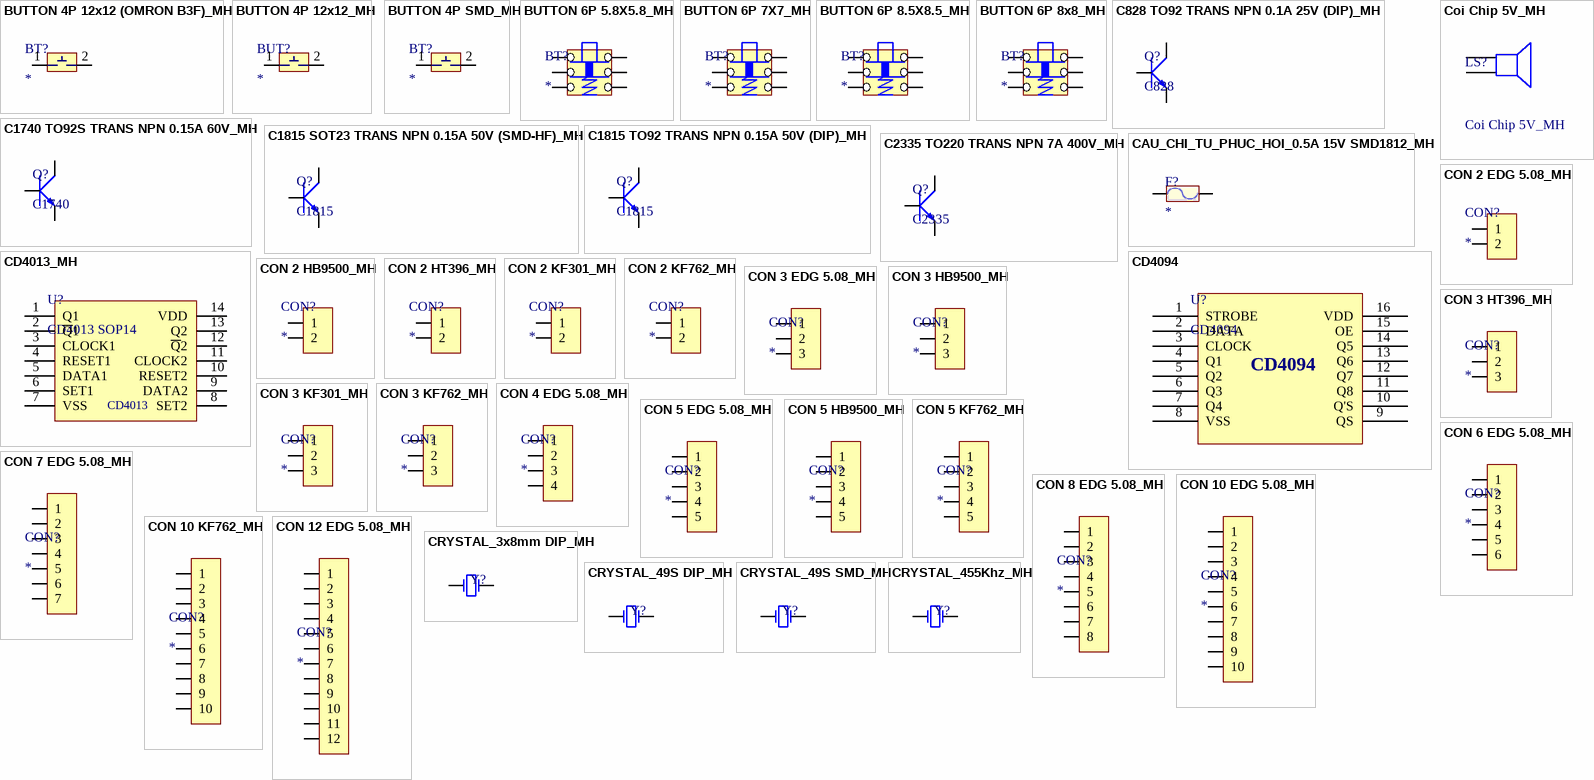
[diagram p12: symbols BUTTON 4P 12x12 (OMRON B3F)_MH to CRYSTAL_455Khz_MH]

## BUTTON 4P 12x12 (OMRON B3F)_MH
designator BT?
Nút nhấn 4 chân, 12x12m (OMRON B3F)
footprint BUTTON 4P 12x12 (OMRON B3F)
pins: 1, 2

## BUTTON 4P 12x12_MH
designator BUT?
Nút nhấn 4 chân, 12x12mm, cắm
footprint Button_12*12 (Nut an to)
pins: 1, 2

## BUTTON 4P SMD_MH
designator BT?
Nút nhấn 4 chân, dán
footprint BUTTON 4P SMD
pins: 1, 2

## BUTTON 6P 5.8X5.8_MH
designator BT?
Nút nhấn giữ 6 chân, 5.8x5.8
footprint BUTTON 6P 5.8X5.8
pins: 1 NC_1, 2 COM_1, 3 NO_1, 4 NO_2, 5 COM_2, 6 NC_2

## BUTTON 6P 7X7_MH
designator BT?
Nút nhấn giữ 6 chân, 7x7
footprint BUTTON 6P 7X7
pins: 1 NC_1, 2 COM_1, 3 NO_1, 4 NO_2, 5 COM_2, 6 NC_2

## BUTTON 6P 8.5X8.5_MH
designator BT?
Nút nhấn giữ 6 chân, 8.5x8.5
footprint BUTTON 6P 8.5X8.5
pins: 1 NC_1, 2 COM_1, 3 NO_1, 4 NO_2, 5 COM_2, 6 NC_2

## BUTTON 6P 8x8_MH
designator BT?
Nút nhấn giữ 6 chân, 8x8
footprint BUTTON 6P 8x8
pins: 1 NC_1, 2 COM_1, 3 NO_1, 4 NO_2, 5 COM_2, 6 NC_2

## C828 TO92 TRANS NPN 0.1A 25V (DIP)_MH
designator Q?, comment C828
footprint TO92 (TO, Flat Index; 3 In-Line, Axial Leads; Body Dia. 4.8mm)
pins: 1 E, 2 C, 3 B

## C1740 TO92S TRANS NPN 0.15A 60V_MH
designator Q?, comment C1740
footprint TO92 (TO, Flat Index; 3 In-Line, Axial Leads; Body Dia. 4.8mm)
pins: 1 E, 2 C, 3 B

## C1815 SOT23 TRANS NPN 0.15A 50V (SMD-HF)_MH
designator Q?, comment C1815
footprint SOT23 (SOT-23; 3 Leads; Body 3.1 x 2.5 mm, inc. leads (LxW max), Alternate Lead Configuration)
pins: 1 B, 2 E, 3 C

## C1815 TO92 TRANS NPN 0.15A 50V (DIP)_MH
designator Q?, comment C1815
footprint TO92 (TO, Flat Index; 3 In-Line, Axial Leads; Body Dia. 4.8mm)
pins: 1 E, 2 C, 3 B

## C2335 TO220 TRANS NPN 7A 400V_MH
designator Q?, comment C2335
footprint TO220
pins: 1 B, 2 C, 3 E

## CAU_CHI_TU_PHUC_HOI_0.5A 15V SMD1812_MH
designator F?
Fuse
footprint FUSE 1812
pins: 1, 2

## CD4013_MH
designator U?, comment CD4013 SOP14
pins: 1 Q1, 2 ~{Q}1, 3 CLOCK1, 4 RESET1, 5 DATA1, 6 SET1, 7 VSS, 8 SET2, 9 DATA2, 10 RESET2, 11 CLOCK2, 12 ~{Q}2, 13 Q2, 14 VDD
text: CD4013

## CD4094
designator U?
footprint SOP16 (Small Outline; 16 Leads; Body Width 5.6 mm; Pitch 1.27 mm)
pins: 1 STROBE, 2 DATA, 3 CLOCK, 4 Q1, 5 Q2, 6 Q3, 7 Q4, 8 VSS, 9 QS, 10 Q'S, 11 Q8, 12 Q7, 13 Q6, 14 Q5, 15 OE, 16 VDD

## Coi Chip 5V_MH
designator LS?
Loudspeaker; Published: 24-Mar-1999; LatestRevisionDate: 17-Jul-2002; LatestRevisionNote: Re-released for DXP Platform.; PackageReference: PIN2; Publisher: Altium Limited
footprint SPEAKER
footprint SP1 (Speaker Telphone on Broad)
footprint SPEAKER
pins: 1, 2

## CON 2 EDG 5.08_MH
designator CON?
CON 2 EDG 5.08 (xanh cong)
footprint CON 2 EDG 5.08 (Header 2, 2 pin, hight 300mil, Pin to Pin 200, Colour Green)
pins: 1, 2

## CON 2 HB9500_MH
designator CON?
CON 2 HB9500 - 2P 9.5mm
footprint Con 2 HB9500 (Header 2: 300V-20A, 2 pin, hight 300mil, Pin to Pin 400, Colour Green)
pins: 1, 2

## CON 2 HT396_MH
designator CON?
CON 2 HT396 - 2P 3.96mm
footprint Con 2 HT396
pins: 1, 2

## CON 2 KF301_MH
designator CON?
CON 2 KF301, 5.08mm
footprint CON 2 KF301
pins: 1, 2

## CON 2 KF762_MH
designator CON?
CON 2 KF762 - 2P 7.62mm
footprint Con 2 KF762
pins: 1, 2

## CON 3 EDG 5.08_MH
designator CON?
CON 3 EDG 5.08 (xanh cong)
footprint Con 3 EDG 5.08 (Header 3, 3 pin, hight 300mil, Pin to Pin 150, Colour White)
pins: 1, 2, 3

## CON 3 HB9500_MH
designator CON?
CON 3 HB9500 - 3P 9.5mm
footprint Con 3 HB9500
pins: 1, 2, 3

## CON 3 HT396_MH
designator CON?
CON 3 HT396 - 3P 3.96mm
footprint Con 3 HT396
pins: 1, 2, 3

## CON 3 KF301_MH
designator CON?
CON 3 KF301, 5.08mm
footprint CON 3 KF301
pins: 1, 2, 3

## CON 3 KF762_MH
designator CON?
CON 3 KF762 - 3P 7.62mm
footprint Con 3 KF762
pins: 1, 2, 3

## CON 4 EDG 5.08_MH
designator CON?
CON 4 EDG 5.08 (xanh cong)
footprint Con 4 EDG 5.08 (Header 4, 4 pin, hight 300mil, Pin to Pin 200, Colour Green)
pins: 1, 2, 3, 4

## CON 5 EDG 5.08_MH
designator CON?
CON 5 EDG 5.08 (xanh cong)
footprint Con 5 EDG 5.08
pins: 1, 2, 3, 4, 5

## CON 5 HB9500_MH
designator CON?
CON 5 HB9500 - 5P 95mm
footprint Con 5 HB9500
pins: 1, 2, 3, 4, 5

## CON 5 KF762_MH
designator CON?
CON 5 KF762 - 5P 7.62mm
footprint Con 5 KF762
pins: 1, 2, 3, 4, 5

## CON 6 EDG 5.08_MH
designator CON?
CON 6 EDG 5.08 (xanh cong)
footprint Con 6 EDG 5.08
pins: 1, 2, 3, 4, 5, 6

## CON 7 EDG 5.08_MH
designator CON?
CON 7 EDG 5.08 (xanh cong)
footprint Con 7 EDG 5.08
pins: 1, 2, 3, 4, 5, 6, 7

## CON 8 EDG 5.08_MH
designator CON?
CON 8 EDG 5.08 (xanh cong)
footprint Con 8 EDG 5.08
pins: 1, 2, 3, 4, 5, 6, 7, 8

## CON 10 EDG 5.08_MH
designator CON?
CON 10 EDG 5.08 (xanh cong)
footprint Con 10 EDG 5.08
pins: 1, 2, 3, 4, 5, 6, 7, 8, 9, 10

## CON 10 KF762_MH
designator CON?
CON 10 KF762 - 10P 7.62mm
footprint CON 10 KF762
pins: 1, 2, 3, 4, 5, 6, 7, 8, 9, 10

## CON 12 EDG 5.08_MH
designator CON?
CON 12 EDG 5.08 (xanh cong)
footprint Con 12 EDG 5.08
pins: 1, 2, 3, 4, 5, 6, 7, 8, 9, 10, 11, 12

## CRYSTAL_3x8mm DIP_MH
designator Y?
Crystal Oscillator; Published: 8-Jun-2000; LatestRevisionDate: 17-Jul-2002; LatestRevisionNote: Re-released for DXP Platform.; PackageReference: R38; Publisher: Altium Limited
footprint XT32kn (Crystal for 32,768kHz, 2pin)
pins: 1 OSC1, 2 OSC2

## CRYSTAL_49S DIP_MH
designator Y?, comment 20MHz  (value not drawn)
Crystal Oscillator; Published: 8-Jun-2000; LatestRevisionDate: 17-Jul-2002; LatestRevisionNote: Re-released for DXP Platform.; PackageReference: R38; Publisher: Altium Limited
footprint XT2 (Footpin for Crystal 2 pin)
pins: 1 OSC1, 2 OSC2

## CRYSTAL_49S SMD_MH
designator Y?, comment 20MHz  (value not drawn)
Crystal Oscillator; Published: 8-Jun-2000; LatestRevisionDate: 17-Jul-2002; LatestRevisionNote: Re-released for DXP Platform.; PackageReference: R38; Publisher: Altium Limited
footprint XTAL 49S SMD
pins: 1 OSC1, 2 OSC2

## CRYSTAL_455Khz_MH
designator Y?
Crystal Oscillator; Published: 8-Jun-2000; LatestRevisionDate: 17-Jul-2002; LatestRevisionNote: Re-released for DXP Platform.; PackageReference: R38; Publisher: Altium Limited
footprint XT455k (Thach anh 455khz (Infrared))
pins: 1 OSC1, 2 OSC2

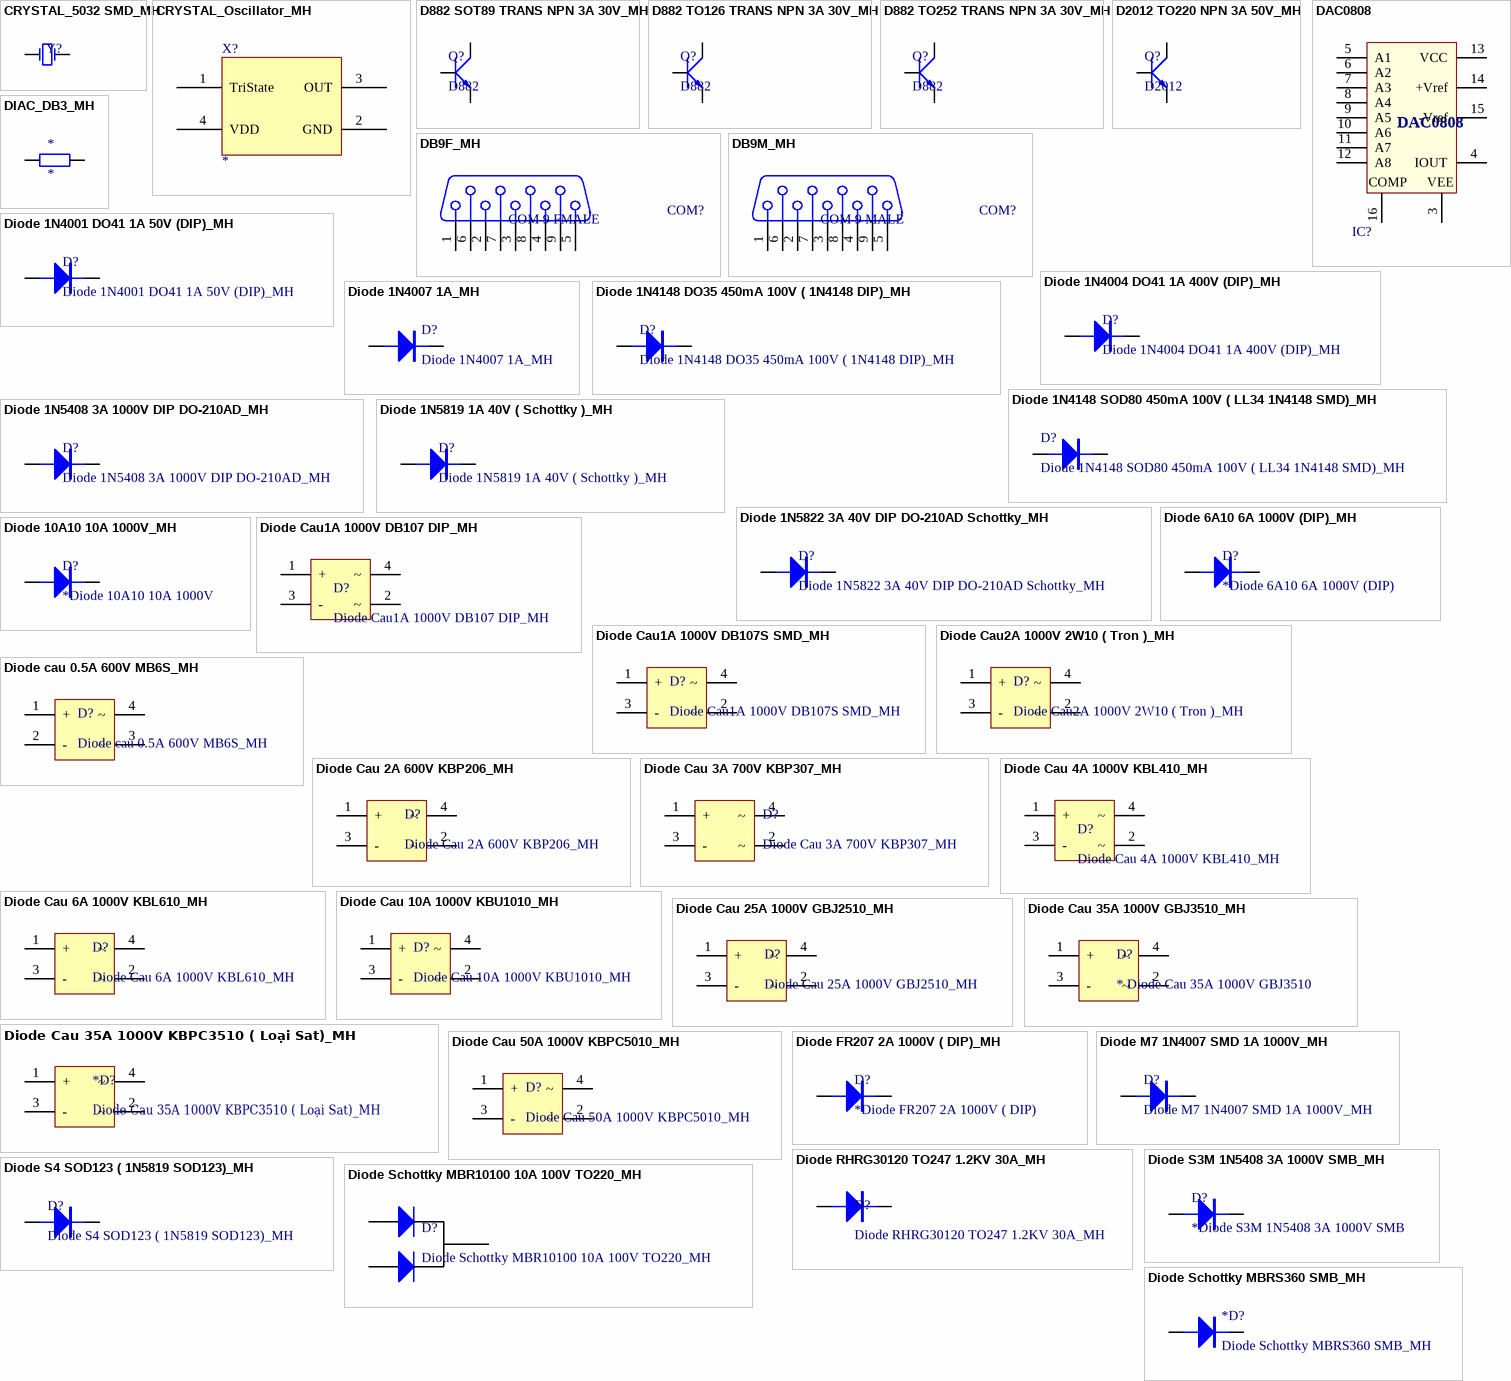
[diagram p13: symbols CRYSTAL_5032 SMD_MH to Diode Schottky MBRS360 SMB_MH]

## CRYSTAL_5032 SMD_MH
designator Y?
Crystal Oscillator; Published: 8-Jun-2000; LatestRevisionDate: 17-Jul-2002; LatestRevisionNote: Re-released for DXP Platform.; PackageReference: R38; Publisher: Altium Limited
footprint XT SMD_5032
pins: 1 OSC1, 2 OSC2

## CRYSTAL_Oscillator_MH
designator X?
footprint Crystal_Oscillator_Small
pins: 1 TriState, 2 GND, 3 OUT, 4 VDD

## D882 SOT89 TRANS NPN 3A 30V_MH
designator Q?, comment D882
footprint SOT89
pins: 1 B, 2 C, 3 E

## D882 TO126 TRANS NPN 3A 30V_MH
designator Q?, comment D882
footprint TO126 (TO, Thru-Hole, Vertical, Heatsink Mounted; 3 In-Line Leads; Pitch 2.54 mm; Pin sequence 1, 3, 2)
pins: 1 E, 2 C, 3 B

## D882 TO252 TRANS NPN 3A 30V_MH
designator Q?, comment D882
footprint TO252
pins: 1 B, 2 C, 3 E

## D2012 TO220 NPN 3A 50V_MH
designator Q?, comment D2012
footprint TO220
pins: 1 B, 2 C, 3 E

## DAC0808
designator IC?
8 Bits Digital Analog Convert; Value: DAC0808
footprint DIP16 (16 PIN, W 300mil, Pin to pin 100mil)
pins: 2 GND (power) hidden to GND, 3 VEE, 4 IOUT, 5 A1, 6 A2, 7 A3, 8 A4, 9 A5, 10 A6, 11 A7, 12 A8, 13 VCC (power), 14 +Vref, 15 -Vref, 16 COMP
2 alternate drawings of the same symbol

## DB9F_MH
designator COM?, comment COM 9 FMALE
COM 9; PackageDocument: O; Positions: 9; Gender: Receptacle; Value: COM 9; Published: 15-Jun-2001; LatestRevisionDate: 17-Jul-2002; LatestRevisionNote: Re-released for DXP Platform.; DatasheetDocument: 1-Sep-1999; PackageReference: 788750; Publisher: Altium Limited; Orientation: Right Angle
footprint DB9FS
pins: 1, 2, 3, 4, 5, 6, 7, 8, 9

## DB9M_MH
designator COM?, comment COM 9 MALE
COM 9; PackageDocument: O; Positions: 9; Gender: Receptacle; Value: COM 9; Published: 15-Jun-2001; LatestRevisionDate: 17-Jul-2002; LatestRevisionNote: Re-released for DXP Platform.; DatasheetDocument: 1-Sep-1999; PackageReference: 788750; Publisher: Altium Limited; Orientation: Right Angle
footprint DSB 9M-SM (Com 9 chan SMD,F)
footprint DB9M
pins: 1, 2, 3, 4, 5, 6, 7, 8, 9

## DIAC_DB3_MH
designator *
footprint DIAC_DB3
pins: 1, 2

## Diode 1N4001 DO41 1A 50V (DIP)_MH
designator D?
Diode 1N4001 DO41 1A 50V (DIP)
footprint SS14
pins: 1, 2

## Diode 1N4004 DO41 1A 400V (DIP)_MH
designator D?
Diode 1N4004 DO41 1A 400V (DIP)
footprint SS14
pins: 1, 2

## Diode 1N4007 1A_MH
designator D?
Diode 1N4007 1A
footprint SS14
pins: 1, 2

## Diode 1N4148 DO35 450mA 100V ( 1N4148 DIP)_MH
designator D?
Diode 1N4148 DO35 450mA 100V ( 1N4148 DIP)
footprint Diode Zener 1N5359B 5W 24V
pins: 1, 2

## Diode 1N4148 SOD80 450mA 100V ( LL34 1N4148 SMD)_MH
designator D?
Diode 1N4148 SOD80 450mA 100V ( LL34 1N4148 SMD)
footprint SOD80
pins: 1, 2

## Diode 1N5408 3A 1000V DIP DO-210AD_MH
designator D?
Diode 1N5408 3A 1000V DIP DO-210AD
footprint Diode 3A
pins: 1, 2

## Diode 1N5819 1A 40V ( Schottky )_MH
designator D?
Diode 1N5819 1A 40V ( Schottky )
footprint SS14
pins: 1, 2

## Diode 1N5822 3A 40V DIP DO-210AD Schottky_MH
designator D?
Diode 1N5822 3A 40V DIP DO-210AD Schottky
footprint Diode 3A
pins: 1, 2

## Diode 6A10 6A 1000V (DIP)_MH
designator D?, comment *Diode 6A10 6A 1000V (DIP)
Diode 6A10 6A 1000V (DIP)
footprint Diode 6A10 6A 1000V (DIP)
pins: 1, 2

## Diode 10A10 10A 1000V_MH
designator D?, comment *Diode 10A10 10A 1000V
Diode 10A10 10A 1000V
footprint Diode 10A10 10A 1000V
pins: 1, 2

## Diode Cau1A 1000V DB107 DIP_MH
designator D?
Diode Cau1A 1000V DB107 DIP
footprint Diode Cau 1000V
pins: 1 +, 2 ~, 3 -, 4 ~

## Diode Cau1A 1000V DB107S SMD_MH
designator D?
Diode Cau1A 1000V DB107S SMD
footprint DB107S SMD
pins: 1 +, 2 ~, 3 -, 4 ~

## Diode Cau2A 1000V 2W10 ( Tron )_MH
designator D?
Diode Cau2A 1000V 2W10 ( Tron )
footprint Diode Cau2A 1000V 2W10 ( Tron )
pins: 1 +, 2 ~, 3 -, 4 ~

## Diode cau 0.5A 600V MB6S_MH
designator D?
Diode cau 0.5A 600V MB6S
footprint MB6S
pins: 1 +, 2 -, 3 ~, 4 ~

## Diode Cau 2A 600V KBP206_MH
designator D?
Diode Cau 2A 600V KBP206
footprint KBU1010
pins: 1 +, 2 ~, 3 -, 4 ~

## Diode Cau 3A 700V KBP307_MH
designator D?
Diode Cau 3A 700V KBP307
footprint KBU1010
pins: 1 +, 2 ~, 3 -, 4 ~

## Diode Cau 4A 1000V KBL410_MH
designator D?
Diode Cau 4A 1000V KBL410
footprint KBU1010
pins: 1 +, 2 ~, 3 -, 4 ~

## Diode Cau 6A 1000V KBL610_MH
designator D?
Diode cau 6A 1000V KBL610
footprint KBU1010
pins: 1 +, 2 ~, 3 -, 4 ~

## Diode Cau 10A 1000V KBU1010_MH
designator D?
Diode Cau 10A 1000V KBU1010
footprint KBU1010
pins: 1 +, 2 ~, 3 -, 4 ~

## Diode Cau 25A 1000V GBJ2510_MH
designator D?
Diode Cau 25A 1000V GBJ2510
footprint GBJ3510
pins: 1 +, 2 ~, 3 -, 4 ~

## Diode Cau 35A 1000V GBJ3510_MH
designator D?, comment * Diode Cau 35A 1000V GBJ3510
Diode Cau 35A 1000V GBJ3510
footprint GBJ3510
pins: 1 +, 2 ~, 3 -, 4 ~

## Diode Cau 35A 1000V KBPC3510 ( Loại Sat)_MH
designator *D?
Diode Cau 35A 1000V KBPC3510 ( Loại Sat)
footprint Diode Cau 1000V
pins: 1 +, 2 ~, 3 -, 4 ~

## Diode Cau 50A 1000V KBPC5010_MH
designator D?
Diode Cau 50A 1000V KBPC5010
footprint KBU1010
pins: 1 +, 2 ~, 3 -, 4 ~

## Diode FR207 2A 1000V ( DIP)_MH
designator D?, comment *Diode FR207 2A 1000V ( DIP)
Diode FR207 2A 1000V ( DIP)
footprint Diode 3A
pins: 1, 2

## Diode M7 1N4007 SMD 1A 1000V_MH
designator D?
Diode M7 1N4007 SMD 1A 1000V
footprint SMB
pins: 1, 2

## Diode RHRG30120 TO247 1.2KV 30A_MH
designator D?
Diode RHRG30120 TO247 1.2KV 30A
footprint TO-247
pins: 1 A, 2 C

## Diode S3M 1N5408 3A 1000V SMB_MH
designator D?, comment *Diode S3M 1N5408 3A 1000V SMB
Diode S3M 1N5408 3A 1000V SMB
footprint SMB
pins: 1, 2

## Diode S4 SOD123 ( 1N5819 SOD123)_MH
designator D?
Diode S4 SOD123 ( 1N5819 SOD123)
footprint SOD123
pins: 1, 2

## Diode Schottky MBR10100 10A 100V TO220_MH
designator D?
Diode Schottky MBR10100 10A 100V TO220
footprint Diode TO220
pins: 1 A, 2 K, 3 A

## Diode Schottky MBRS360 SMB_MH
designator *D?
Diode Schottky MBRS360 SMB
footprint SS14
pins: 1, 2

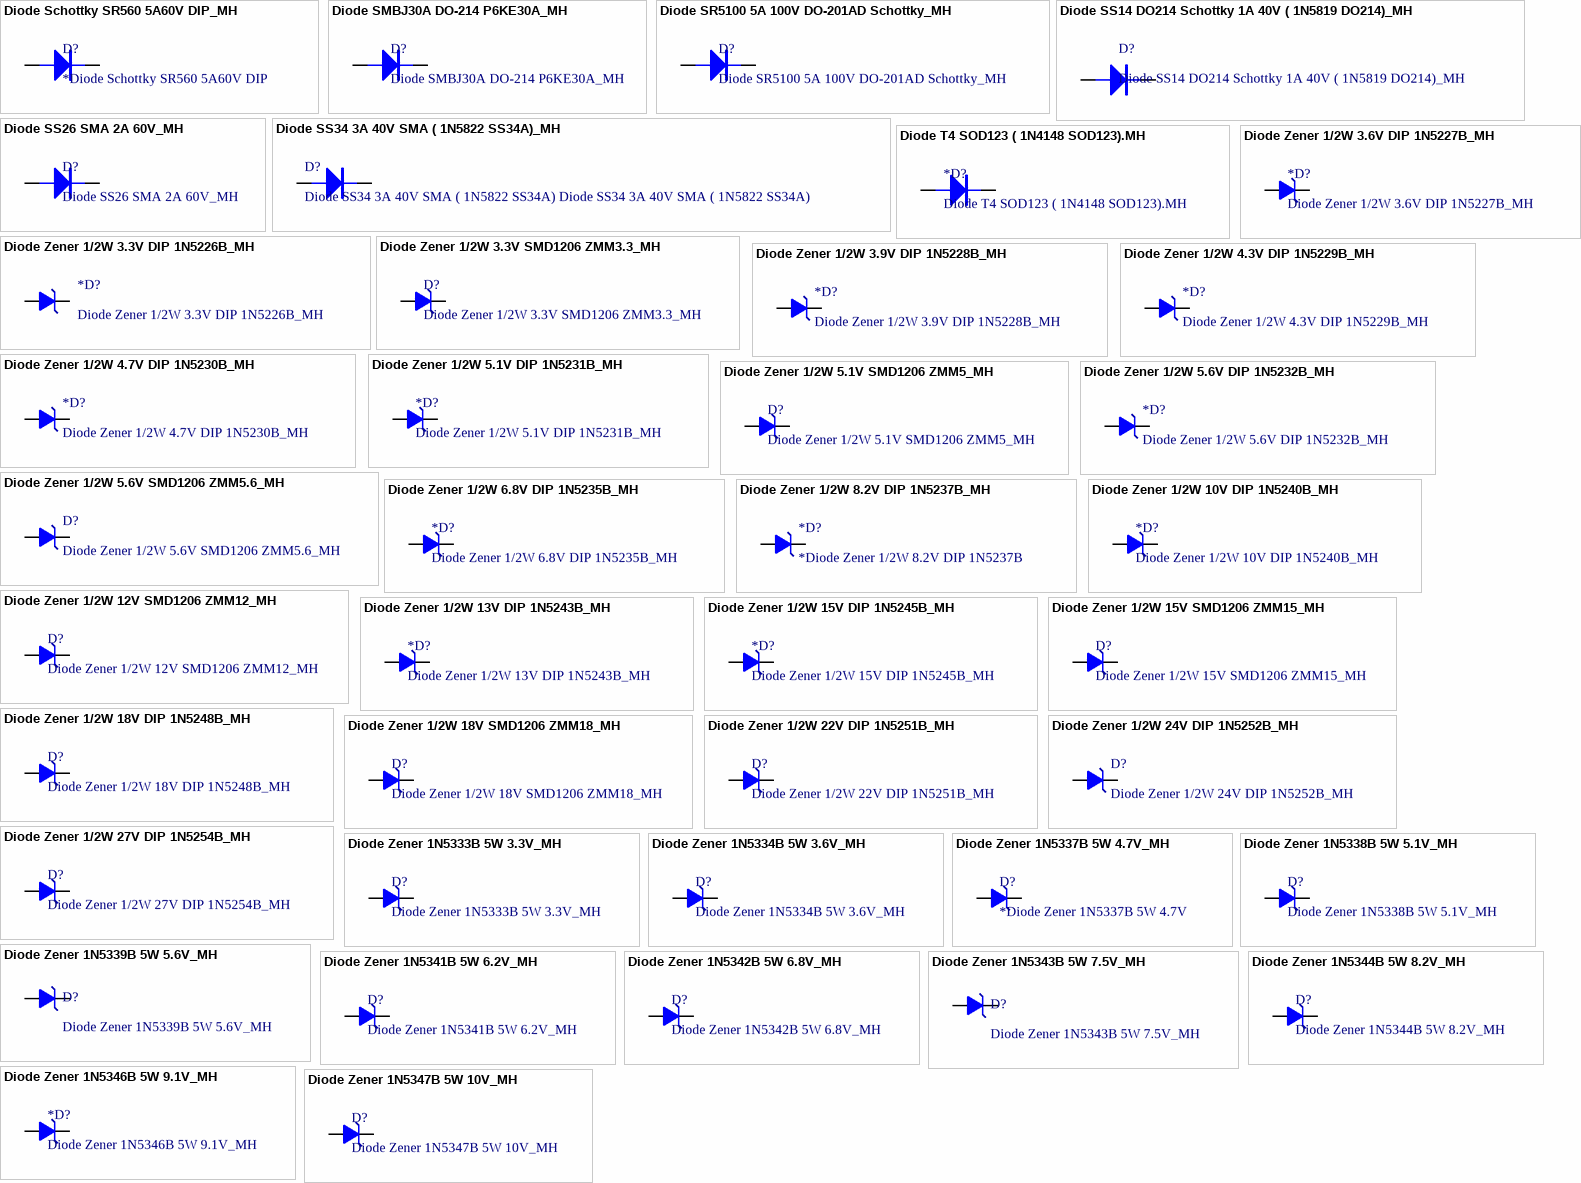
[diagram p14: symbols Diode Schottky SR560 5A60V DIP_MH to Diode Zener 1N5347B 5W 10V_MH]

## Diode Schottky SR560 5A60V DIP_MH
designator D?, comment *Diode Schottky SR560 5A60V DIP
Diode Schottky SR560 5A60V DIP
footprint SS14
pins: 1, 2

## Diode SMBJ30A DO-214 P6KE30A_MH
designator D?
Diode SMBJ30A DO-214 P6KE30A
footprint DO-214
pins: 1, 2

## Diode SR5100 5A 100V DO-201AD Schottky_MH
designator D?
Diode SR5100 5A 100V DO-201AD Schottky
footprint Diode 3A
pins: 1, 2

## Diode SS14 DO214 Schottky 1A 40V ( 1N5819 DO214)_MH
designator D?
Diode SS14 DO214 Schottky 1A 40V ( 1N5819 DO214)
footprint SMB
pins: 1, 2

## Diode SS26 SMA 2A 60V_MH
designator D?
Diode SS26 SMA 2A 60V
footprint SMA.
pins: 1, 2

## Diode SS34 3A 40V SMA ( 1N5822 SS34A)_MH
designator D?, comment Diode SS34 3A 40V SMA ( 1N5822 SS34A) Diode SS34 3A 40V SMA ( 1N5822 SS34A)
Diode SS34 3A 40V SMA ( 1N5822 SS34A)
footprint SMB
pins: 1, 2

## Diode T4 SOD123 ( 1N4148 SOD123).MH
designator *D?
Diode T4 SOD123 ( 1N4148 SOD123)
footprint SOD123
pins: 1, 2

## Diode Zener 1/2W 3.3V DIP 1N5226B_MH
designator *D?
Diode Zener 1/2W 3.3V DIP 1N5226B
footprint DIP 1N4733A
pins: 1 A, 2 K

## Diode Zener 1/2W 3.3V SMD1206 ZMM3.3_MH
designator D?
Diode Zener 1/2W 3.3V SMD1206 ZMM3.3
footprint SMD1206 ZMM18
pins: 1 A, 2 K

## Diode Zener 1/2W 3.6V DIP 1N5227B_MH
designator *D?
Diode Zener 1/2W 3.6V DIP 1N5227B
footprint DO-35
pins: 1 A, 2 K

## Diode Zener 1/2W 3.9V DIP 1N5228B_MH
designator *D?
Diode Zener 1/2W 3.9V DIP 1N5228B
footprint DO-35
pins: 1 A, 2 K

## Diode Zener 1/2W 4.3V DIP 1N5229B_MH
designator *D?
Diode Zener 1/2W 4.3V DIP 1N5229B
footprint DO-35
pins: 1 A, 2 K

## Diode Zener 1/2W 4.7V DIP 1N5230B_MH
designator *D?
Diode Zener 1/2W 4.7V DIP 1N5230B
footprint DO-35
pins: 1 A, 2 K

## Diode Zener 1/2W 5.1V DIP 1N5231B_MH
designator *D?
Diode Zener 1/2W 5.1V DIP 1N5231B
footprint DO-35
pins: 1 A, 2 K

## Diode Zener 1/2W 5.1V SMD1206 ZMM5_MH
designator D?
Diode Zener 1/2W 5.1V SMD1206 ZMM5.
footprint SMD1206 ZMM18
pins: 1 A, 2 K

## Diode Zener 1/2W 5.6V DIP 1N5232B_MH
designator *D?
Diode Zener 1/2W 5.6V DIP 1N5232B
footprint DO-35
pins: 1 A, 2 K

## Diode Zener 1/2W 5.6V SMD1206 ZMM5.6_MH
designator D?
Diode Zener 1/2W 5.6V SMD1206 ZMM5.6
footprint Diode SMD 1206
pins: 1 A, 2 K

## Diode Zener 1/2W 6.8V DIP 1N5235B_MH
designator *D?
Diode Zener 1/2W 6.8V DIP 1N5235B
footprint DO-35
pins: 1 A, 2 K

## Diode Zener 1/2W 8.2V DIP 1N5237B_MH
designator *D?, comment *Diode Zener 1/2W 8.2V DIP 1N5237B
Diode Zener 1/2W 8.2V DIP 1N5237B
footprint DO-35
pins: 1 A, 2 K

## Diode Zener 1/2W 10V DIP 1N5240B_MH
designator *D?
Diode Zener 1/2W 10V DIP 1N5240B
footprint DO-35
pins: 1 A, 2 K

## Diode Zener 1/2W 12V SMD1206 ZMM12_MH
designator D?
Diode Zener 1/2W 12V SMD1206 ZMM12
footprint Diode SMD 1206
pins: 1 A, 2 K

## Diode Zener 1/2W 13V DIP 1N5243B_MH
designator *D?
Diode Zener 1/2W 13V DIP 1N5243B
footprint DO-35
pins: 1 A, 2 K

## Diode Zener 1/2W 15V DIP 1N5245B_MH
designator *D?
Diode Zener 1/2W 15V DIP 1N5245B
footprint DO-35
pins: 1 A, 2 K

## Diode Zener 1/2W 15V SMD1206 ZMM15_MH
designator D?
Diode Zener 1/2W 15V SMD1206 ZMM15
footprint SMD1206 ZMM18
pins: 1 A, 2 K

## Diode Zener 1/2W 18V DIP 1N5248B_MH
designator D?
Diode Zener 1/2W 18V DIP 1N5248B
footprint DO-35
pins: 1 A, 2 K

## Diode Zener 1/2W 18V SMD1206 ZMM18_MH
designator D?
Diode Zener 1/2W 18V SMD1206 ZMM18
footprint SMD1206 ZMM18
pins: 1 A, 2 K

## Diode Zener 1/2W 22V DIP 1N5251B_MH
designator D?
Diode Zener 1/2W 22V DIP 1N5251B
footprint Diode Zener 1N5363B 5W 30V
pins: 1 A, 2 K

## Diode Zener 1/2W 24V DIP 1N5252B_MH
designator D?
Diode Zener 1/2W 24V DIP 1N5252B
footprint DO-35
pins: 1 A, 2 K

## Diode Zener 1/2W 27V DIP 1N5254B_MH
designator D?
Diode Zener 1/2W 27V DIP 1N5254B
footprint Diode Zener 1N5363B 5W 30V
pins: 1 A, 2 K

## Diode Zener 1N5333B 5W 3.3V_MH
designator D?
Diode Zener 1N5333B 5W 3.3V
footprint SS14
pins: 1 A, 2 K

## Diode Zener 1N5334B 5W 3.6V_MH
designator D?
Diode Zener 1N5334B 5W 3.6V
footprint SS14
pins: 1 A, 2 K

## Diode Zener 1N5337B 5W 4.7V_MH
designator D?, comment *Diode Zener 1N5337B 5W 4.7V
Diode Zener 1N5337B 5W 4.7V
footprint SS14
pins: 1 A, 2 K

## Diode Zener 1N5338B 5W 5.1V_MH
designator D?
Diode Zener 1N5338B 5W 5.1V
footprint SS14
pins: 1 A, 2 K

## Diode Zener 1N5339B 5W 5.6V_MH
designator D?
Diode Zener 1N5339B 5W 5.6V
footprint SS14
pins: 1 A, 2 K

## Diode Zener 1N5341B 5W 6.2V_MH
designator D?
Diode Zener 1N5341B 5W 6.2V
footprint SS14
pins: 1 A, 2 K

## Diode Zener 1N5342B 5W 6.8V_MH
designator D?
Diode Zener 1N5342B 5W 6.8V
footprint SS14
pins: 1 A, 2 K

## Diode Zener 1N5343B 5W 7.5V_MH
designator D?
Diode Zener 1N5343B 5W 7.5V
footprint SS14
pins: 1 A, 2 K

## Diode Zener 1N5344B 5W 8.2V_MH
designator D?
Diode Zener 1N5344B 5W 8.2V
footprint SS14
pins: 1 A, 2 K

## Diode Zener 1N5346B 5W 9.1V_MH
designator *D?
Diode Zener 1N5346B 5W 9.1V
footprint SS14
footprint Model Name (Footprint not found)
pins: 1 A, 2 K

## Diode Zener 1N5347B 5W 10V_MH
designator D?
Diode Zener 1N5347B 5W 10V
footprint SS14
pins: 1 A, 2 K

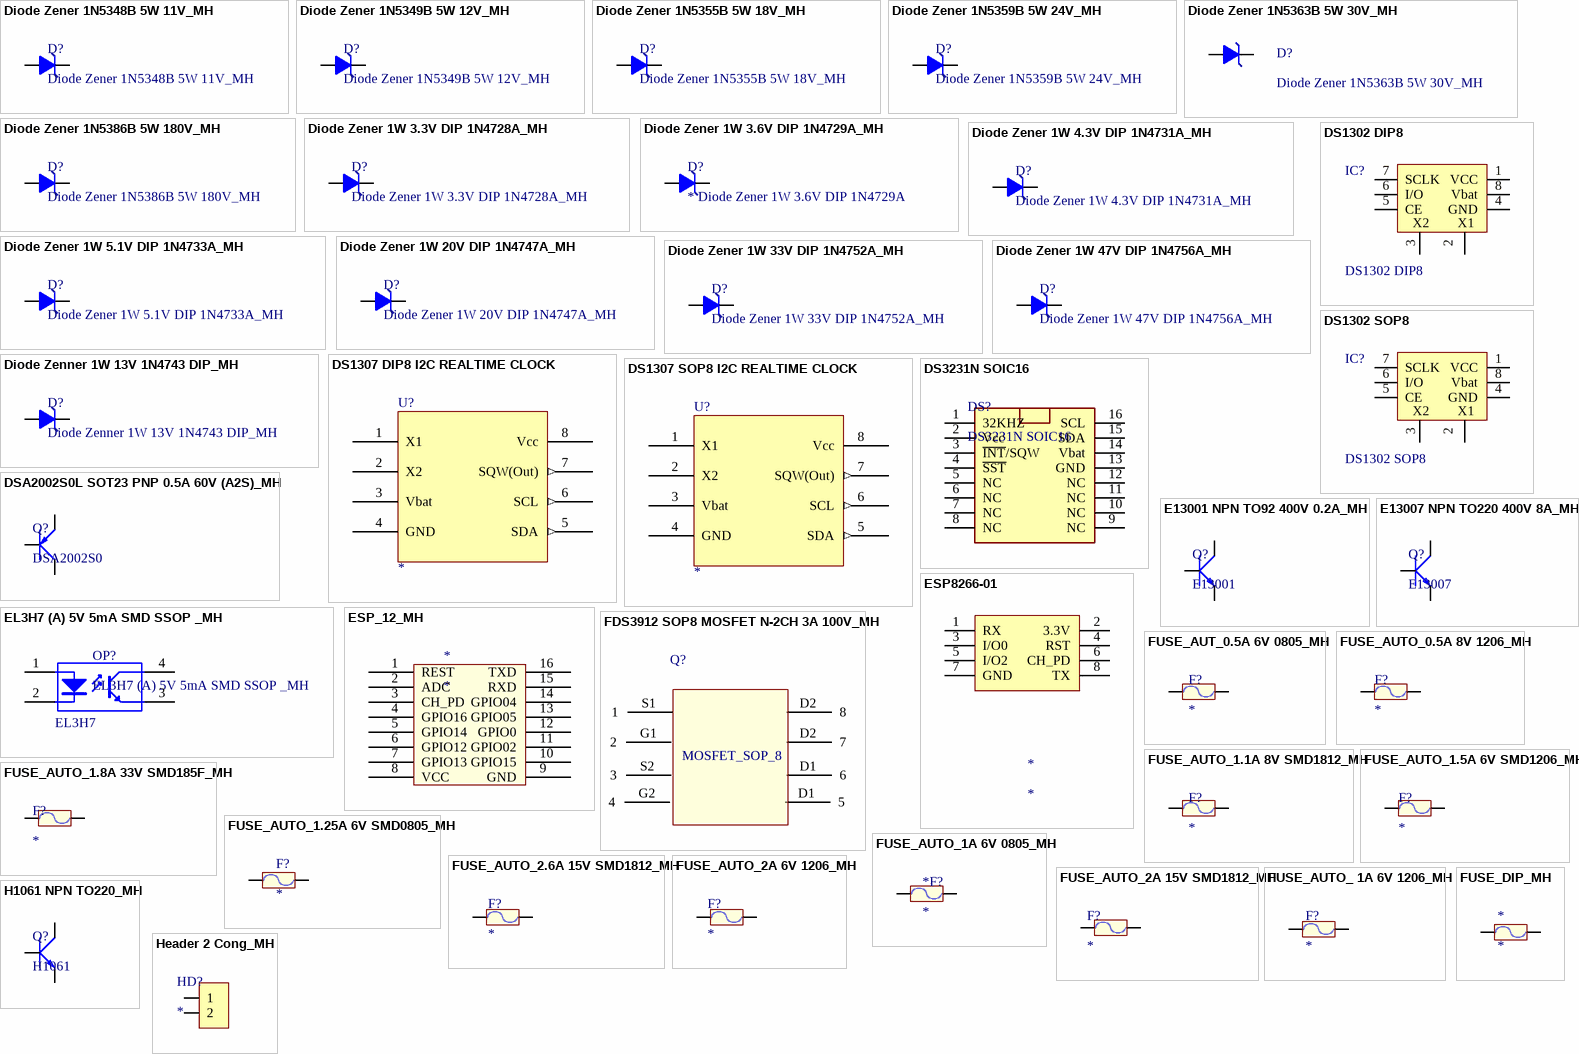
[diagram p15: symbols Diode Zener 1N5348B 5W 11V_MH to Header 2 Cong_MH]

## Diode Zener 1N5348B 5W 11V_MH
designator D?
Diode Zener 1N5348B 5W 11V
footprint SS14
pins: 1 A, 2 K

## Diode Zener 1N5349B 5W 12V_MH
designator D?
Diode Zener 1N5349B 5W 12V
footprint SS14
pins: 1 A, 2 K

## Diode Zener 1N5355B 5W 18V_MH
designator D?
Diode Zener 1N5355B 5W 18V
footprint Diode Zener 1A
pins: 1 A, 2 K

## Diode Zener 1N5359B 5W 24V_MH
designator D?
Diode Zener 1N5359B 5W 24V
footprint Diode Zener 1N5359B 5W 24V
pins: 1 A, 2 K

## Diode Zener 1N5363B 5W 30V_MH
designator D?
Diode Zener 1N5363B 5W 30V
footprint Diode Zener 1N5363B 5W 30V
pins: 1 A, 2 K

## Diode Zener 1N5386B 5W 180V_MH
designator D?
Diode Zener 1N5386B 5W 180V
footprint SS14
pins: 1 A, 2 K

## Diode Zener 1W 3.3V DIP 1N4728A_MH
designator D?
Diode Zener 1W 3.3V DIP 1N4728A
footprint DIP 1N4733A
pins: 1 A, 2 K

## Diode Zener 1W 3.6V DIP 1N4729A_MH
designator D?, comment * Diode Zener 1W 3.6V DIP 1N4729A
Diode Zener 1W 3.6V DIP 1N4729A
footprint DIP 1N4733A
pins: 1 A, 2 K

## Diode Zener 1W 4.3V DIP 1N4731A_MH
designator D?
Diode Zener 1W 4.3V DIP 1N4731A
footprint DIP 1N4733A
pins: 1 A, 2 K

## Diode Zener 1W 5.1V DIP 1N4733A_MH
designator D?
Diode Zener 1W 5.1V DIP 1N4733A
footprint DIP 1N4733A
pins: 1 A, 2 K

## Diode Zener 1W 20V DIP 1N4747A_MH
designator D?
Diode Zener 1W 20V DIP 1N4747A
footprint Diode Zener 1A
pins: 1 A, 2 K

## Diode Zener 1W 33V DIP 1N4752A_MH
designator D?
Diode Zener 1W 33V DIP 1N4752A
footprint Diode Zener 1N5363B 5W 30V
pins: 1 A, 2 K

## Diode Zener 1W 47V DIP 1N4756A_MH
designator D?
Diode Zener 1W 47V DIP 1N4756A
footprint Diode Zener 1N5359B 5W 24V
pins: 1 A, 2 K

## Diode Zenner 1W 13V 1N4743 DIP_MH
designator D?
Diode Zenner 1W 13V 1N4743 DIP
footprint Diode Zener 1N5359B 5W 24V
pins: 1 A, 2 K

## DS1302 DIP8
designator IC?
Real Timer Serial - 2=>5V; Value: DS1307
footprint DIP8
pins: 1 VCC, 2 X1, 3 X2, 4 GND, 5 CE, 6 I/O, 7 SCLK, 8 Vbat

## DS1302 SOP8
designator IC?
Real Timer Serial - 2=>5V; Value: DS1307
footprint SOP 8
pins: 1 VCC, 2 X1, 3 X2, 4 GND, 5 CE, 6 I/O, 7 SCLK, 8 Vbat

## DS1307 DIP8 I2C REALTIME CLOCK
designator U?
64 X 8 Serial Real-Time Clock
footprint DIP8
pins: 1 X1, 2 X2, 3 Vbat, 4 GND (power), 5 SDA (out), 6 SCL (out), 7 SQW(Out) (out), 8 Vcc (power)

## DS1307 SOP8 I2C REALTIME CLOCK
designator U?
64 X 8 Serial Real-Time Clock
footprint SOP 8
pins: 1 X1, 2 X2, 3 Vbat, 4 GND (power), 5 SDA (out), 6 SCL (out), 7 SQW(Out) (out), 8 Vcc (power)

## DS3231N SOIC16
designator DS?
footprint SOIC16
pins: 1 32KHZ, 2 Vcc, 3 ~{INT}/SQW, 4 ~{SST}, 5 NC, 6 NC, 7 NC, 8 NC, 9 NC, 10 NC, 11 NC, 12 NC, 13 GND, 14 Vbat, 15 SDA, 16 SCL

## DSA2002S0L SOT23 PNP 0.5A 60V (A2S)_MH
designator Q?, comment DSA2002S0
footprint SOT23 (SOT-23; 3 Leads; Body 3.1 x 2.5 mm, inc. leads (LxW max), Alternate Lead Configuration)
pins: 1 B, 2 E, 3 C

## E13001 NPN TO92 400V 0.2A_MH
designator Q?, comment E13001
footprint TO92 (TO, Flat Index; 3 In-Line, Axial Leads; Body Dia. 4.8mm)
pins: 1 B, 2 C, 3 E

## E13007 NPN TO220 400V 8A_MH
designator Q?, comment E13007
footprint TO220
pins: 1 B, 2 C, 3 E

## EL3H7 (A) 5V 5mA SMD SSOP _MH
designator OP?
footprint OP SOP4
pins: 1, 2, 3, 4
text: EL3H7

## ESP8266-01
designator *
pins: 1 RX, 2 3.3V, 3 I/O0, 4 RST, 5 I/O2, 6 CH_PD, 7 GND, 8 TX

## ESP_12_MH
designator *
footprint SOP16 (Small Outline; 16 Leads; Body Width 5.6 mm; Pitch 1.27 mm)
pins: 1 REST, 2 ADC, 3 CH_PD, 4 GPIO16, 5 GPIO14, 6 GPIO12, 7 GPIO13, 8 VCC, 9 GND, 10 GPIO15, 11 GPIO02, 12 GPIO0, 13 GPIO05, 14 GPIO04, 15 RXD, 16 TXD

## FDS3912 SOP8 MOSFET N-2CH 3A 100V_MH
designator Q?
footprint SOP 8
pins: D1 5, D1 6, D2 7, D2 8, G1 2, G2 4, S1 1, S2 3
text: MOSFET_SOP_8

## FUSE_AUT_0.5A 6V 0805_MH
designator F?
Fuse?
footprint FUSE 0805
pins: 1, 2

## FUSE_AUTO_0.5A 8V 1206_MH
designator F?
Fuse
footprint FUSE 1206
pins: 1, 2

## FUSE_AUTO_1.1A 8V SMD1812_MH
designator F?
Fuse
footprint FUSE 1812
pins: 1, 2

## FUSE_AUTO_1.5A 6V SMD1206_MH
designator F?
Fuse?
footprint FUSE 1206
pins: 1, 2

## FUSE_AUTO_1.8A 33V SMD185F_MH
designator F?
Fuse
footprint FUSE 1206
pins: 1, 2

## FUSE_AUTO_1.25A 6V SMD0805_MH
designator F?
Fuse?
footprint FUSE 0805
pins: 1, 2

## FUSE_AUTO_1A 6V 0805_MH
designator *F?
Fuse?
footprint FUSE 0805
pins: 1, 2

## FUSE_AUTO_2.6A 15V SMD1812_MH
designator F?
Fuse
footprint FUSE 1812
pins: 1, 2

## FUSE_AUTO_2A 6V 1206_MH
designator F?
Fuse?
footprint FUSE 1206
pins: 1, 2

## FUSE_AUTO_2A 15V SMD1812_MH
designator F?
Fuse
footprint FUSE 1812
pins: 1, 2

## FUSE_AUTO_ 1A 6V 1206_MH
designator F?
Fuse
footprint FUSE 1206
pins: 1, 2

## FUSE_DIP_MH
designator *
footprint Cau tri dip
pins: 1, 2

## H1061 NPN TO220_MH
designator Q?, comment H1061
footprint TO220
pins: 1 B, 2 C, 3 E

## Header 2 Cong_MH
designator HD?
Header 2P XH2.54 cong
footprint HEADER 2 CONG
pins: 1, 2

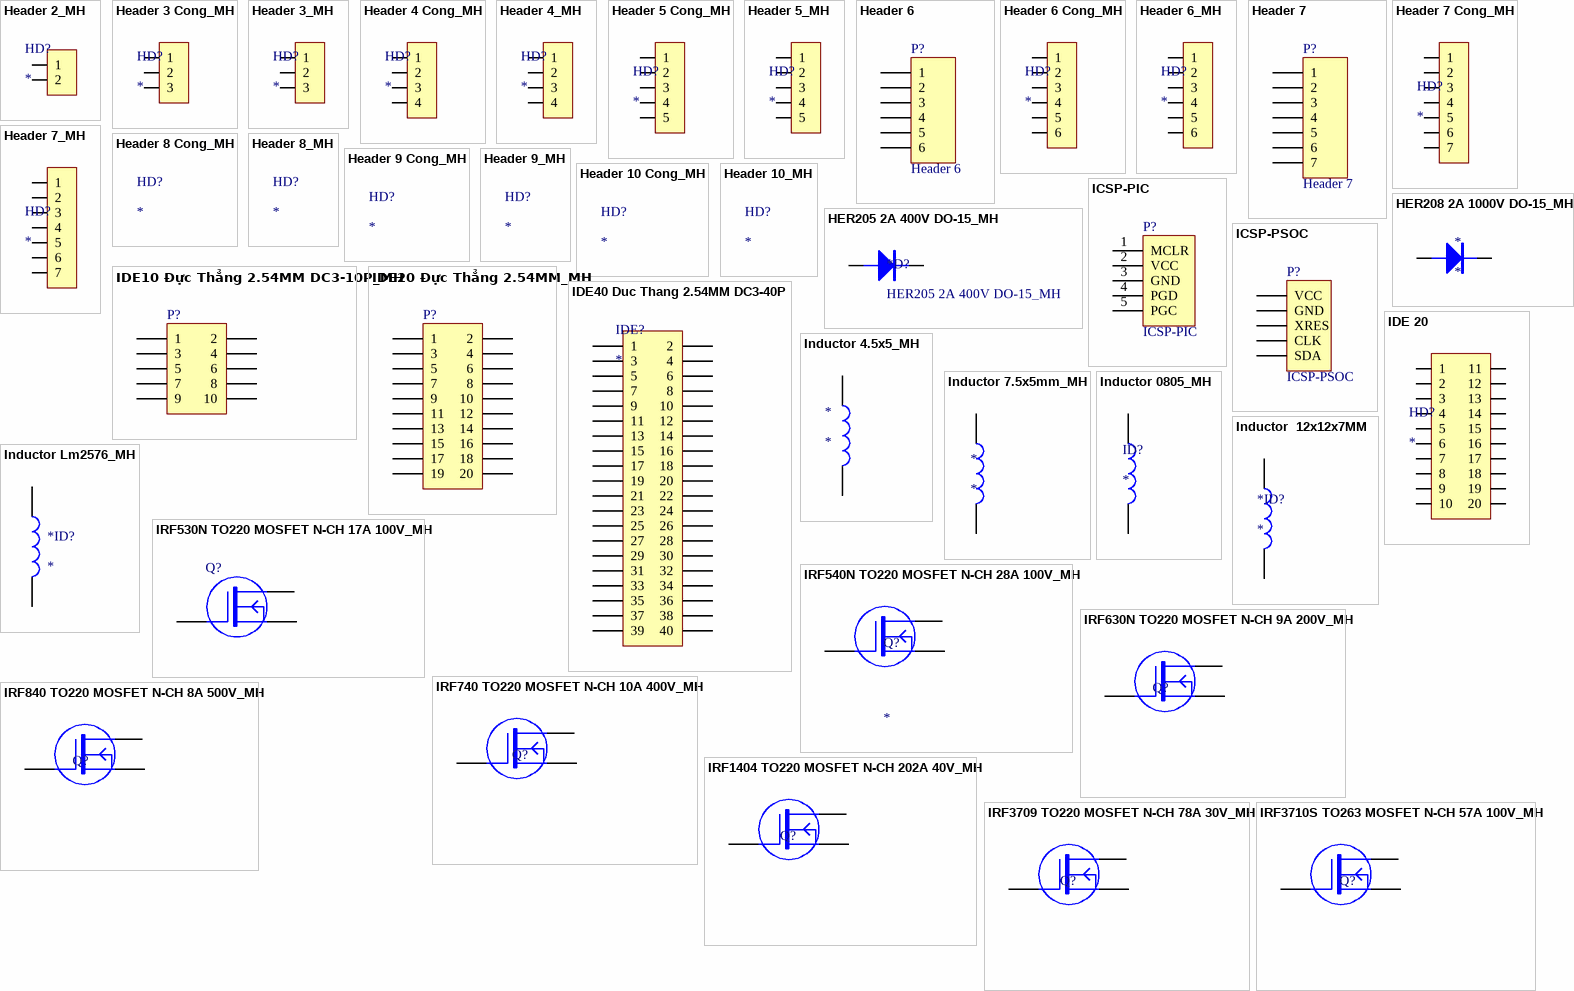
[diagram p16: symbols Header 2_MH to IRF3710S TO263 MOSFET N-CH 57A 100V_MH]

## Header 2_MH
designator HD?
Header 2P XH2.54 thẳng
footprint HEADER 2
pins: 1, 2

## Header 3 Cong_MH
designator HD?
Header 3P XH2.54 cong
footprint HEADER 3 CONG
pins: 1, 2, 3

## Header 3_MH
designator HD?
Header 3P XH2.54 thẳng
footprint HEADER 3
pins: 1, 2, 3

## Header 4 Cong_MH
designator HD?
Header 4P XH2.54 cong
footprint HEADER 4 CONG
pins: 1, 2, 3, 4

## Header 4_MH
designator HD?
Header 4P XH2.54 thẳng
footprint HEADER 4
pins: 1, 2, 3, 4

## Header 5 Cong_MH
designator HD?
Header 5P XH2.54 cong
footprint HEADER 5 CONG
pins: 1, 2, 3, 4, 5

## Header 5_MH
designator HD?
Header 5P XH2.54 thẳng
footprint HEADER 5
pins: 1, 2, 3, 4, 5

## Header 6
designator P?
Header, 6-Pin; LatestRevisionDate: 17-Jul-2002; LatestRevisionNote: Re-released for DXP Platform.; Publisher: Altium Limited
footprint HEADER 6
pins: 1, 2, 3, 4, 5, 6

## Header 6 Cong_MH
designator HD?
Header 6P XH2.54 cong
footprint HEADER 6 CONG
pins: 1, 2, 3, 4, 5, 6

## Header 6_MH
designator HD?
Header 6P XH2.54 thẳng
footprint HEADER 6
pins: 1, 2, 3, 4, 5, 6

## Header 7
designator P?
Header, 7-Pin; LatestRevisionDate: 17-Jul-2002; LatestRevisionNote: Re-released for DXP Platform.; Publisher: Altium Limited
footprint Header 7 2.54
pins: 1, 2, 3, 4, 5, 6, 7

## Header 7 Cong_MH
designator HD?
Header 7P XH2.54 cong
footprint HEADER 7 CONG
pins: 1, 2, 3, 4, 5, 6, 7

## Header 7_MH
designator HD?
Header 7P XH2.54 thẳng
footprint HEADER 7
pins: 1, 2, 3, 4, 5, 6, 7

## Header 8 Cong_MH
designator HD?
Header 8P XH2.54 cong
footprint HEADER 8 CONG

## Header 8_MH
designator HD?
Header 8P XH2.54 thẳng
footprint HEADER 8

## Header 9 Cong_MH
designator HD?
Header 9P XH2.54 cong
footprint HEADER 9

## Header 9_MH
designator HD?
Header 9P XH2.54 thẳng
footprint HEADER 9

## Header 10 Cong_MH
designator HD?
Header 10P XH2.54 cong
footprint HEADER 10 CONG

## Header 10_MH
designator HD?
Header 10P XH2.54 thẳng
footprint HEADER 10

## HER205 2A 400V DO-15_MH
designator *D?
HER205 2A 400V DO-15
footprint DO-15
pins: 1, 2

## HER208 2A 1000V DO-15_MH
designator *
footprint DO-15
pins: 1, 2

## ICSP-PIC
designator P?
Header, 5-Pin; LatestRevisionDate: 17-Jul-2002; LatestRevisionNote: Re-released for DXP Platform.; Publisher: Altium Limited
footprint HEADER 5
signal-integrity model Connector
pins: 1 MCLR, 2 VCC, 3 GND, 4 PGD, 5 PGC

## ICSP-PSOC
designator P?
ICSP 5 pin - PSoC; LatestRevisionDate: 17-Jul-2002; LatestRevisionNote: Re-released for DXP Platform.; Publisher: Altium Limited
footprint HEADER 5
signal-integrity model Connector
pins: 1 VCC, 2 GND, 3 XRES, 4 CLK, 5 SDA

## IDE10 Đực Thẳng 2.54MM DC3-10P_MH
designator P?  (value not drawn)
Header, 5-Pin, Dual row; LatestRevisionDate: 17-Jul-2002; LatestRevisionNote: Re-released for DXP Platform.; Publisher: Altium Limited
footprint CABLE 10 (Connector; Header; 5x2 Position)
pins: 1, 2, 3, 4, 5, 6, 7, 8, 9, 10

## IDE20 Đực Thẳng 2.54MM_MH
designator P?  (value not drawn)
Header, 10-Pin, Dual row; LatestRevisionDate: 17-Jul-2002; LatestRevisionNote: Re-released for DXP Platform.; Publisher: Altium Limited
footprint CABLE 20 (Connector; Header; 5x2 Position)
pins: 1, 2, 3, 4, 5, 6, 7, 8, 9, 10, 11, 12, 13, 14, 15, 16, 17, 18, 19, 20

## IDE40 Duc Thang 2.54MM DC3-40P
designator IDE?
IDE40 Đực Thẳng 2.54MM DC3-40P
footprint IDE40
pins: 1, 2, 3, 4, 5, 6, 7, 8, 9, 10, 11, 12, 13, 14, 15, 16, 17, 18, 19, 20, 21, 22, 23, 24, 25, 26, 27, 28, 29, 30, 31, 32, 33, 34, 35, 36, 37, 38, 39, 40

## IDE 20
designator HD?
IDE header 20P
footprint CABLE 20 (Connector; Header; 5x2 Position)
pins: 1, 2, 3, 4, 5, 6, 7, 8, 9, 10, 11, 12, 13, 14, 15, 16, 17, 18, 19, 20

## Inductor 4.5x5_MH
designator *
footprint Inductor 4.5x5
pins: 1, 2

## Inductor 7.5x5mm_MH
designator *
footprint inductor 7.5x5mm
pins: 1, 2

## Inductor 0805_MH
designator ID?
cuon cam 0805
footprint Inductor 0805
pins: 1, 2

## Inductor  12x12x7MM
designator *ID?
cuon cam
footprint Inductor 22uH 12x12x7MM
pins: 1, 2

## Inductor Lm2576_MH
designator *ID?
cuon cam
footprint Inductor lm2576
pins: 1, 2

## IRF530N TO220 MOSFET N-CH 17A 100V_MH
designator Q?
footprint G_D_S_TO220
pins: 1 G "1", 2 D, 3 S

## IRF540N TO220 MOSFET N-CH 28A 100V_MH
designator Q?
footprint G_D_S_TO220
pins: 1 G "1", 2 D, 3 S

## IRF630N TO220 MOSFET N-CH 9A 200V_MH
designator Q?
footprint G_D_S_TO220
pins: 1 G "1", 2 D, 3 S